# Altium schematic symbol library PiMX8MP_r0.3_release.SCHLIB: 77 symbols
Pins are listed as number, name and electrical type; pins without a type are passive.

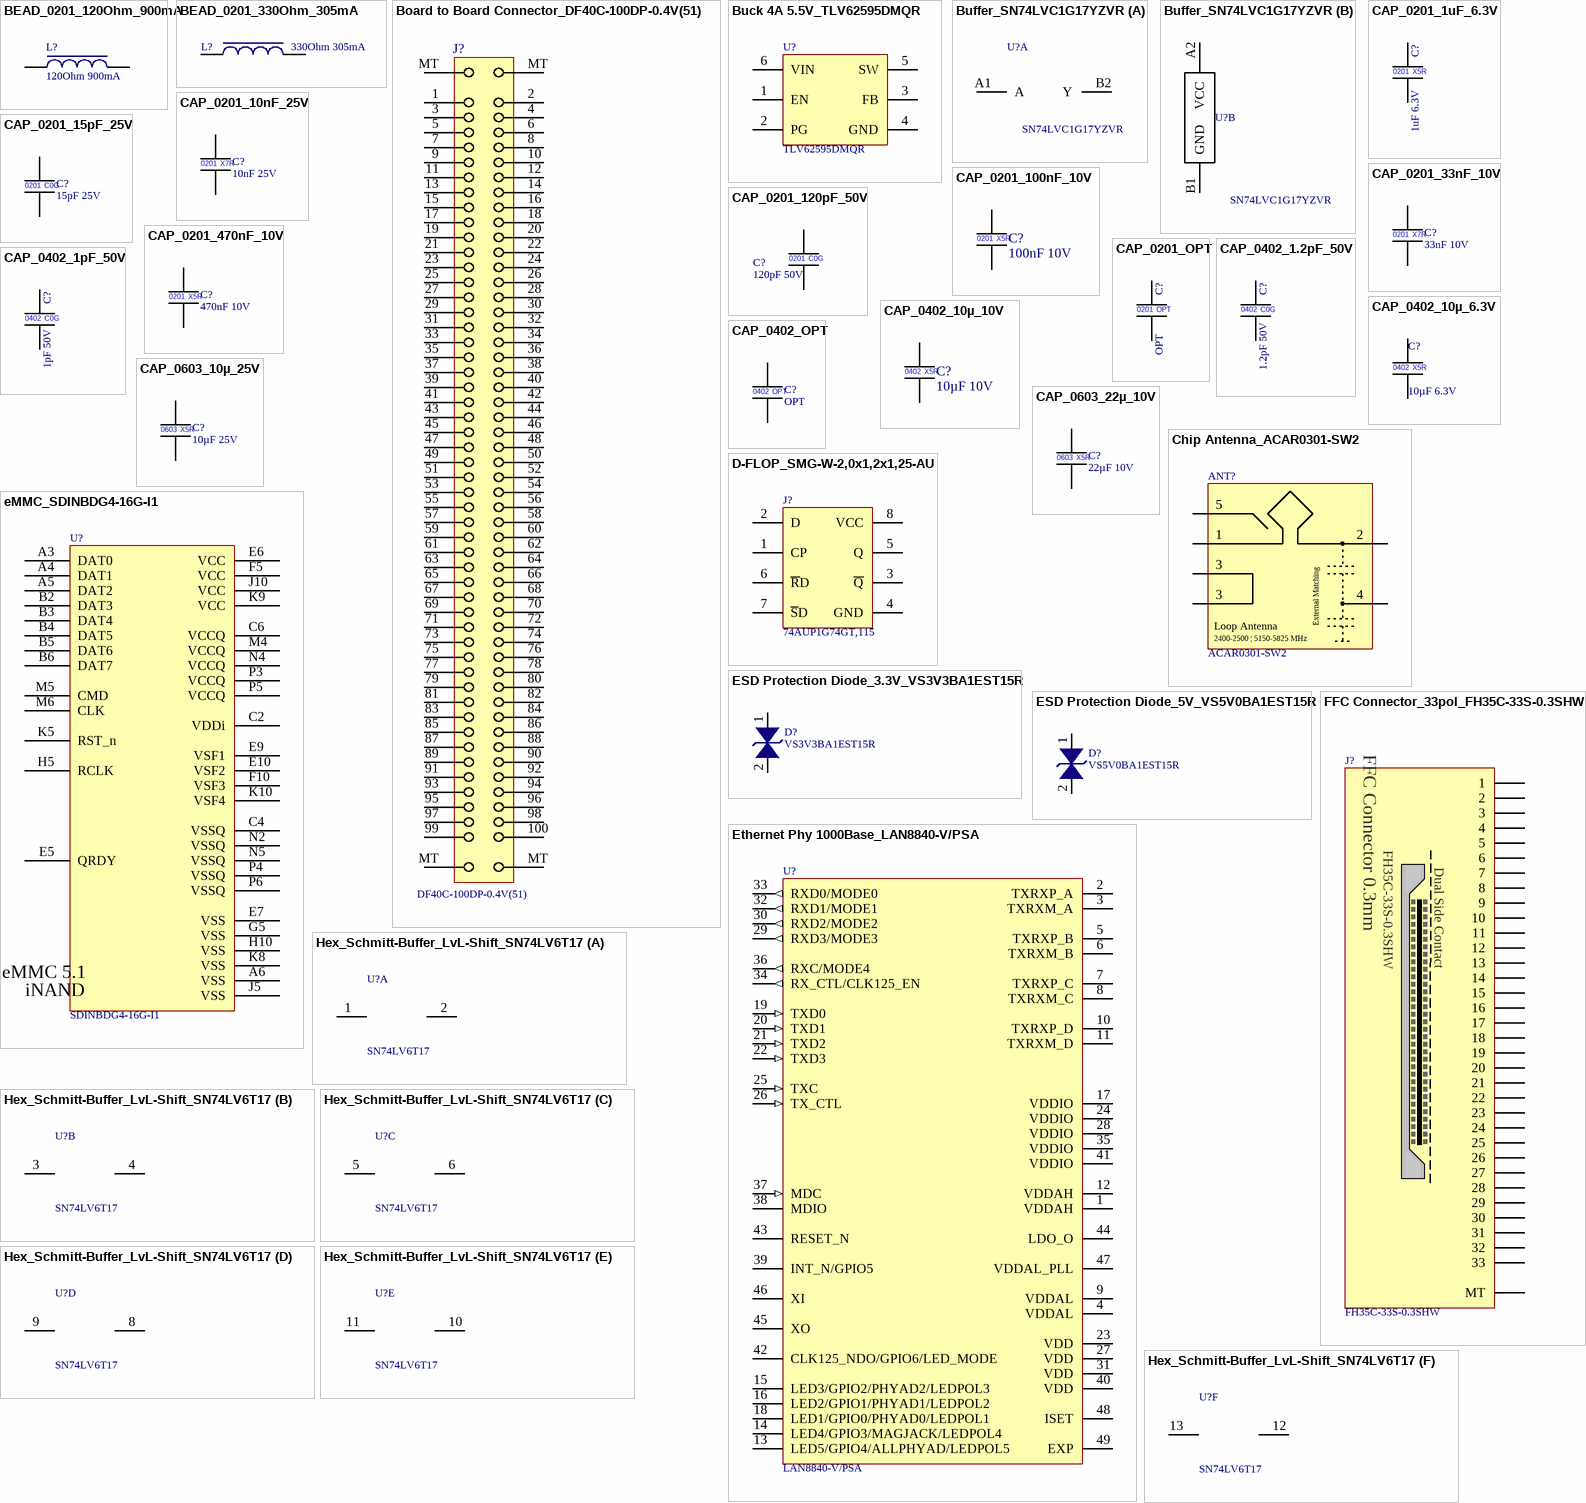
[diagram p0: symbols BEAD_0201_120Ohm_900mA to Hex_Schmitt-Buffer_LvL-Shift_SN74LV6T17]

## BEAD_0201_120Ohm_900mA
designator L?, comment 120Ohm 900mA
Ferrite Beads Multi-Layer 120Ohm 25% 100MHz 0.9A 0.16Ohm DCR 0201 T/R; Manufacturer 1 Prt. Nr.: BLM03PX121SN1D; Manufacturer 1: Murata Electronics; Manufacturer: Murata; Current Rating: 700mA; DC Resistance (DCR): 160mΩ; Impedance: 120Ω; Number of Circuits: 1; Value: 160mΩ; Supplier: Newark; Supplier Part Number: BLM03PX121SN1D; Manufacturer Part Number: BLM03PX121SN1D; RoHS: Compliant; Category: Ferrite Beads and Chips; Stock: 25450; Pricing: 10=0.023, 25=0.02, 50=0.019, 100=0.017, 250=0.015, 500=0.014, 1000=0.013 (USD); Case/Package: 0201; Core Material: Ferrite; Country of Origin: Japan; Export Control Classification Number (ECCN) Code: EAR99; Height: 300µm; Harmonized Tariff Schedule (HTS) Code: 8504.50.80.00; Introduction Date: 2017-05-24; Length: 600µm; Lifecycle Status: Production; Max Operating Temperature: 125°C; Min Operating Temperature: -55°C; Mounting Technology: Surface Mount; Number of Terminals: 2; REACH SVHC: Yes; RMS Current (Irms): 900mA; Schedule B: 8504500000, 8504500000|8504500000|8504500000|8504500000|8504500000; ESR: 160mΩ; Test Frequency: 100MHz; Tolerance: 25%; Width: 300µm; ComponentLink1URL: https://datasheet.octopart.com:443/BLM03PX121SN1D-Murata-datasheet-180806337.pdf?src-supplier=IHS; ComponentLink1Description: https://datasheet.octopart.com:443/BLM03PX121SN1D-Murata-datasheet-180806337.pdf?src-supplier=IHS; ComponentLink2URL: https://datasheet.octopart.com:443/BLM03PX121SN1D-Murata-datasheet-138706455.pdf?src-supplier=Ciiva; ComponentLink2Description: https://datasheet.octopart.com:443/BLM03PX121SN1D-Murata-datasheet-138706455.pdf?src-supplier=Ciiva; ComponentLink3URL: https://datasheet.octopart.com/BLM03PX121SN1D-Murata-datasheet-37129980.pdf; ComponentLink3Description: https://datasheet.octopart.com/BLM03PX121SN1D-Murata-datasheet-37129980.pdf; ComponentLink4URL: http://sigma.octopart.com:80/reach_statement/Murata-company-16.pdf?src-supplier=Compliance+Statements; ComponentLink4Description: http://sigma.octopart.com:80/reach_statement/Murata-company-16.pdf?src-supplier=Compliance+Statements
footprint INDC0603X03L (Chip Inductor, 2-Leads, Body 0,60x0,30mm, IPC High Density)
pins: 1, 2

## BEAD_0201_330Ohm_305mA
designator L?, comment 330Ohm 305mA
Ferrite Bead 0201 330Ohm 305mA; Manufacturer 1 Prt. Nr.: NFZ03SG331SN10D; Manufacturer 1: Murata Electronics
footprint INDC0603X03L (Chip Inductor, 2-Leads, Body 0,60x0,30mm, IPC High Density)
pins: 1, 2

## Board to Board Connector_DF40C-100DP-0.4V(51)
designator J?, comment DF40C-100DP-0.4V(51)
Board to Board connector 100Pol Stacking Header 0.4mm Pitch; Manufacturer 1: Hirose Connector; Manufacturer 1 Prt. Nr.: DF40C-100DP-0.4V(51)
footprint BOARD-TO-BOARD DF40C-100DP-0.4V (Stacking Board to Board Connector 100pol 0.4mm Pitch)
pins: 1, 2, 3, 4, 5, 6, 7, 8, 9, 10, 11, 12, 13, 14, 15, 16, 17, 18, 19, 20, 21, 22, 23, 24, 25, 26, 27, 28, 29, 30, 31, 32, 33, 34, 35, 36, 37, 38, 39, 40, 41, 42, 43, 44, 45, 46, 47, 48, 49, 50, 51, 52, 53, 54, 55, 56, 57, 58, 59, 60, 61, 62, 63, 64, 65, 66, 67, 68, 69, 70, 71, 72, 73, 74, 75, 76, 77, 78, 79, 80, 81, 82, 83, 84, 85, 86, 87, 88, 89, 90, 91, 92, 93, 94, 95, 96, 97, 98, 99, 100, MT, MT, MT, MT

## Buck 4A 5.5V_TLV62595DMQR
designator U?, comment TLV62595DMQR
5.5V, 4A, Adjustable ,Synchronous Buck Converter; Manufacturer 1: Texas Instruments; Manufacturer 1 Prt. Nr.: TLV62595DMQR
footprint VSON50P150X150X100_HS-6L (DMQ (VSON-HR, 6) Package 1.5mm X 1.5mm x 1mm)
pins: 1 EN, 2 PG, 3 FB, 4 GND, 5 SW, 6 VIN

## Buffer_SN74LVC1G17YZVR
designator U?, comment SN74LVC1G17YZVR
Single Buffer SN74LVC1G17DPWR; Manufacturer 1: Texas Instruments; Manufacturer 1 Prt. Nr.: SN74LVC1G17YZVR
footprint BGA4C50P2X2_89X89X50 (BGA, 4-Leads, Body 0,89x0,89mmx0,50mm, Pitch 0,50mm)
part A pins: A1 A, B2 Y
part B pins: A2 VCC, B1 GND

## CAP_0201_1uF_6.3V
designator C?, comment 1uF 6.3V
Multilayer Ceramic Capacitors MLCC - SMD/SMT 0201 6.3VDC; Manufacturer 1: Murata Electronics; Manufacturer 1 Prt. Nr.: GRM033R60J105MEA2D; Manufacturer 2 Prt. Nr.: CL03A105MQ3CSNC; Manufacturer 2: Samsung Electro-Mechanics
footprint CAPC0603X03L (Chip Capacitor, 2-Leads, Body 0,60x0,30mm, IPC High Density)
pins: 1, 2
text: 0201; X5R

## CAP_0201_10nF_25V
designator C?, comment 10nF 25V
Multilayer Ceramic Capacitors MLCC - SMD/SMT 0201 25VDC; Manufacturer 1: Murata Electronics; Manufacturer 1 Prt. Nr.: GRM033C81E103KE14D; Manufacturer 2 Prt. Nr.: 02013C103KAT2A; Manufacturer 2: AVX
footprint CAPC0603X03L (Chip Capacitor, 2-Leads, Body 0,60x0,30mm, IPC High Density)
pins: 1, 2
text: 0201; X7R

## CAP_0201_15pF_25V
designator C?, comment 15pF 25V
Multilayer Ceramic Capacitors MLCC - SMD/SMT 0201 25VDC; Manufacturer 1: Murata Electronics; Manufacturer 1 Prt. Nr.: GCM0335C1E150FA16J; Manufacturer 2 Prt. Nr.: C0201C150J3GACTU; Manufacturer 2: KEMET
footprint CAPC0603X03L (Chip Capacitor, 2-Leads, Body 0,60x0,30mm, IPC High Density)
pins: 1, 2
text: 0201; C0G

## CAP_0201_33nF_10V
designator C?, comment 33nF 10V
Multilayer Ceramic Capacitors MLCC - SMD/SMT 0201 10VDC; Manufacturer 1: Murata Electronics; Manufacturer 1 Prt. Nr.: GRM033R61A333KE84E; Manufacturer 2 Prt. Nr.: CC0201KRX5R6BB333; Manufacturer 2: YAGEO
footprint CAPC0603X03L (Chip Capacitor, 2-Leads, Body 0,60x0,30mm, IPC High Density)
pins: 1, 2
text: 0201; X7R

## CAP_0201_100nF_10V
designator C?, comment 100nF 10V
Multilayer Ceramic Capacitors MLCC - SMD/SMT 0201 10VDC; Manufacturer 1: Murata Electronics; Manufacturer 1 Prt. Nr.: GRT033R61A104KE01J; Manufacturer 2 Prt. Nr.: CL03A104MP3NNNC; Manufacturer 2: Samsung Electro-Mechanics
footprint CAPC0603X03L (Chip Capacitor, 2-Leads, Body 0,60x0,30mm, IPC High Density)
pins: 1, 2
text: 0201; X5R

## CAP_0201_120pF_50V
designator C?, comment 120pF 50V
Multilayer Ceramic Capacitors MLCC - SMD/SMT 0201 50VDC; Manufacturer 1: Murata Electronics; Manufacturer 1 Prt. Nr.: GRT0335C1H121FA02D; Manufacturer 2 Prt. Nr.: GRM0335C1H121FA01D; Manufacturer 2: Murata Electronics
footprint CAPC0603X03L (Chip Capacitor, 2-Leads, Body 0,60x0,30mm, IPC High Density)
pins: 1, 2
text: 0201; C0G

## CAP_0201_470nF_10V
designator C?, comment 470nF 10V
Multilayer Ceramic Capacitors MLCC - SMD/SMT 0201 10VDC; Manufacturer 1: Taiyo Yuden; Manufacturer 1 Prt. Nr.: LMK063BBJ474KPLF; Manufacturer 2 Prt. Nr.: C0603X5R1A474M030BC; Manufacturer 2: TDK
footprint CAPC0603X03L (Chip Capacitor, 2-Leads, Body 0,60x0,30mm, IPC High Density)
pins: 1, 2
text: 0201; X5R

## CAP_0201_OPT
designator C?, comment OPT  (no BOM)
Optional Capacitor 0201
footprint CAPC0603X03L (Chip Capacitor, 2-Leads, Body 0,60x0,30mm, IPC High Density)
pins: 1, 2
text: 0201

## CAP_0402_1.2pF_50V
designator C?, comment 1.2pF 50V
Multilayer Ceramic Capacitors MLCC - SMD/SMT 0402 50VDC; Manufacturer 1: Murata Electronics; Manufacturer 1 Prt. Nr.: GJM1555C1H1R2CB01D; Manufacturer 2 Prt. Nr.: CBR04C129A5GAC; Manufacturer 2: KEMET
footprint CAPC1005X06L (Chip Capacitor, 2-Leads, Body 1,00x0,50mm, IPC High Density)
pins: 1, 2
text: 0402; C0G

## CAP_0402_1pF_50V
designator C?, comment 1pF 50V
Multilayer Ceramic Capacitors MLCC - SMD/SMT 0402 50VDC; Manufacturer 1: Murata Electronics; Manufacturer 1 Prt. Nr.: GJM1555C1H1R0BB01J; Manufacturer 2 Prt. Nr.: CBR04C109A5GAC; Manufacturer 2: KEMET
footprint CAPC1005X06L (Chip Capacitor, 2-Leads, Body 1,00x0,50mm, IPC High Density)
pins: 1, 2
text: 0402; C0G

## CAP_0402_10µ_6.3V
designator C?, comment 10µF 6.3V
Multilayer Ceramic Capacitors MLCC - SMD/SMT 0402 6.3VDC; Manufacturer 1: KYOCERA AVX; Manufacturer 1 Prt. Nr.: KGM05CS60J106MH; Manufacturer 2 Prt. Nr.: GRT155C80J106ME13J; Manufacturer 2: Murata
footprint CAPC1005X06L (Chip Capacitor, 2-Leads, Body 1,00x0,50mm, IPC High Density)
footprint CAPC1005X06UHDI (Chip Capacitor, 2-Leads, Body 1,00x0,50mm, IPC High Density)
pins: 1, 2
text: 0402; X5R

## CAP_0402_10µ_10V
designator C?, comment 10µF 10V
Multilayer Ceramic Capacitors MLCC - SMD/SMT 0402 10VDC; Manufacturer 1: Murata Electronics; Manufacturer 1 Prt. Nr.: GRM155R61A106ME11D; Manufacturer 2 Prt. Nr.: 0402ZD106MAT4A; Manufacturer 2: KYOCERA AVX
footprint CAPC1005X06L (Chip Capacitor, 2-Leads, Body 1,00x0,50mm, IPC High Density)
footprint CAPC1005X06UHDI (Chip Capacitor, 2-Leads, Body 1,00x0,50mm, IPC High Density)
pins: 1, 2
text: 0402; X5R

## CAP_0402_OPT
designator C?, comment OPT  (no BOM)
Optional Capacitor 0402
footprint CAPC1005X06L (Chip Capacitor, 2-Leads, Body 1,00x0,50mm, IPC High Density)
pins: 1, 2
text: 0402

## CAP_0603_10µ_25V
designator C?, comment 10µF 25V
Multilayer Ceramic Capacitors MLCC - SMD/SMT 0603 25VDC; Manufacturer 1: Murata Electronics; Manufacturer 1 Prt. Nr.: GRM188R61E106KA73J; Manufacturer 2 Prt. Nr.: CL10A106MA8NRNC; Manufacturer 2: Samsung Electro-Mechanics
footprint CAPC1608X10L (Chip Capacitor, 2-Leads, Body 1,60x0,80mm, IPC High Density)
pins: 1, 2
text: 0603; X5R

## CAP_0603_22µ_10V
designator C?, comment 22µF 10V
Multilayer Ceramic Capacitors MLCC - SMD/SMT 0603 10VDC; Manufacturer 1: Murata Electronics; Manufacturer 1 Prt. Nr.: GRM188R61A226ME15D; Manufacturer 2 Prt. Nr.: CL10A226MP8NRNC; Manufacturer 2: Samsung Electro-Mechanics
footprint CAPC1608X10L (Chip Capacitor, 2-Leads, Body 1,60x0,80mm, IPC High Density)
pins: 1, 2
text: 0603; X5R

## Chip Antenna_ACAR0301-SW2
designator ANT?, comment ACAR0301-SW2
Ceramic Chip Antenna ACAR0301-SW2 2.4 - 5.825GHZ; Manufacturer 1: ABRACON; Manufacturer 1 Prt. Nr.: ACAR0301-SW2
footprint ANTENNA_ACAR0301-SW2
pins: 1, 2, 3, 3, 4, 5
text: External Matching; Loop Antenna; 2400-2500 | 5150-5825 MHz

## D-FLOP_SMG-W-2,0x1,2x1,25-AU
designator J?, comment 74AUP1G74GT,115
D-type flip-flop with differential output and async set- and reset input; Manufacturer 1: Nexperia; Manufacturer 1 Prt. Nr.: 74AUP1G74GT,115
footprint PSON50P100X50-8L (PSON, 8-Leads, Body 1,95x1,00mm, Pitch 0,50mm, IPC High Density)
pins: 1 CP, 2 D, 3 ~{Q}, 4 GND, 5 Q, 6 ~{R}D, 7 ~{S}D, 8 VCC

## eMMC_SDINBDG4-16G-I1
designator U?, comment SDINBDG4-16G-I1
iNAND eMMC 16GB; Manufacturer 1: SanDisk; Manufacturer 1 Prt. Nr.: SDINBDG4-16G-I1
footprint BGA153C50P14X14_1150X1300X80 (BGA, 153-Leads, Body 11,50x13,00mmx0,80mm, Pitch 0,50mm)
footprint BGA153C50P14X14_1150X1300X120 (BGA, 153-Leads, Body 11,50x13,00mmx0,80mm, Pitch 0,50mm)
pins: A3 DAT0, A4 DAT1, A5 DAT2, A6 VSS, B2 DAT3, B3 DAT4, B4 DAT5, B5 DAT6, B6 DAT7, C2 VDDi, C4 VSSQ, C6 VCCQ, E5 QRDY, E6 VCC, E7 VSS, E9 VSF1, E10 VSF2, F5 VCC, F10 VSF3, G5 VSS, H5 RCLK, H10 VSS, J5 VSS, J10 VCC, K5 RST_n, K8 VSS, K9 VCC, K10 VSF4, M4 VCCQ, M5 CMD, M6 CLK, N2 VSSQ, N4 VCCQ, N5 VSSQ, P3 VCCQ, P4 VSSQ, P5 VCCQ, P6 VSSQ
text: eMMC 5.1; iNAND

## ESD Protection Diode_3.3V_VS3V3BA1EST15R
designator D?, comment VS3V3BA1EST15R
ESD Diode Suppressors Bidirectional 3.3V working voltage 0201; Manufacturer 1: ROHM Semiconductor; Manufacturer 1 Prt. Nr.: VS3V3BA1EST15R
footprint DFN38P60X29-2L (DFN, 2-Leads, Body 0,30x0,60mm, Pitch 0,38mm, IPC High Density)
pins: 1, 2

## ESD Protection Diode_5V_VS5V0BA1EST15R
designator D?, comment VS5V0BA1EST15R
ESD Diode Suppressors Bidirectional 5V working voltage 0201; Manufacturer 1: ROHM Semiconductor; Manufacturer 1 Prt. Nr.: VS5V0BA1EST15R
footprint DFN38P60X29-2L (DFN, 2-Leads, Body 0,30x0,60mm, Pitch 0,38mm, IPC High Density)
pins: 1, 2

## Ethernet Phy 1000Base_LAN8840-V/PSA
designator U?, comment LAN8840-V/PSA
Precision IEEE1588v2 Integrated 10/100/1000M Ethernet precision Transdceiver; Manufacturer 1: Microchip Technology; Manufacturer 1 Prt. Nr.: LAN8840-V/PSA; Temperature Range: -40°C-105°C
footprint QFN50P700X700X100_HS-49L (QFN, 48-Leads, Body 7,00x7,00mm, Pitch 0,50mm, Thermal Pad 5,05x5,05mm, IPC High Density)
pins: 1 VDDAH, 2 TXRXP_A, 3 TXRXM_A, 4 VDDAL, 5 TXRXP_B, 6 TXRXM_B, 7 TXRXP_C, 8 TXRXM_C, 9 VDDAL, 10 TXRXP_D, 11 TXRXM_D, 12 VDDAH, 13 LED5/GPIO4/ALLPHYAD/LEDPOL5, 14 LED4/GPIO3/MAGJACK/LEDPOL4, 15 LED3/GPIO2/PHYAD2/LEDPOL3, 16 LED2/GPIO1/PHYAD1/LEDPOL2, 17 VDDIO, 18 LED1/GPIO0/PHYAD0/LEDPOL1, 19 TXD0 (in), 20 TXD1 (in), 21 TXD2 (in), 22 TXD3 (in), 23 VDD, 24 VDDIO, 25 TXC (in), 26 TX_CTL (in), 27 VDD, 28 VDDIO, 29 RXD3/MODE3 (out), 30 RXD2/MODE2 (out), 31 VDD, 32 RXD1/MODE1 (out), 33 RXD0/MODE0 (out), 34 RX_CTL/CLK125_EN (out), 35 VDDIO, 36 RXC/MODE4 (out), 37 MDC (in), 38 MDIO, 39 INT_N/GPIO5, 40 VDD, 41 VDDIO, 42 CLK125_NDO/GPIO6/LED_MODE, 43 RESET_N, 44 LDO_O, 45 XO, 46 XI, 47 VDDAL_PLL, 48 ISET, 49 EXP

## FFC Connector_33pol_FH35C-33S-0.3SHW
designator J?, comment FH35C-33S-0.3SHW
FFC Connector 33pol 0.3mm Pitch Double Sided Contacts; Manufacturer 1: Hirose Connector; Manufacturer 1 Prt. Nr.: FH35C-33S-0.3SHW(99)
footprint FFC 33pol 0.3mm FH35C-33S-0.3SHW
pins: 1, 2, 3, 4, 5, 6, 7, 8, 9, 10, 11, 12, 13, 14, 15, 16, 17, 18, 19, 20, 21, 22, 23, 24, 25, 26, 27, 28, 29, 30, 31, 32, 33, MT
text: FFC Connector 0.3mm; Dual Side Contact

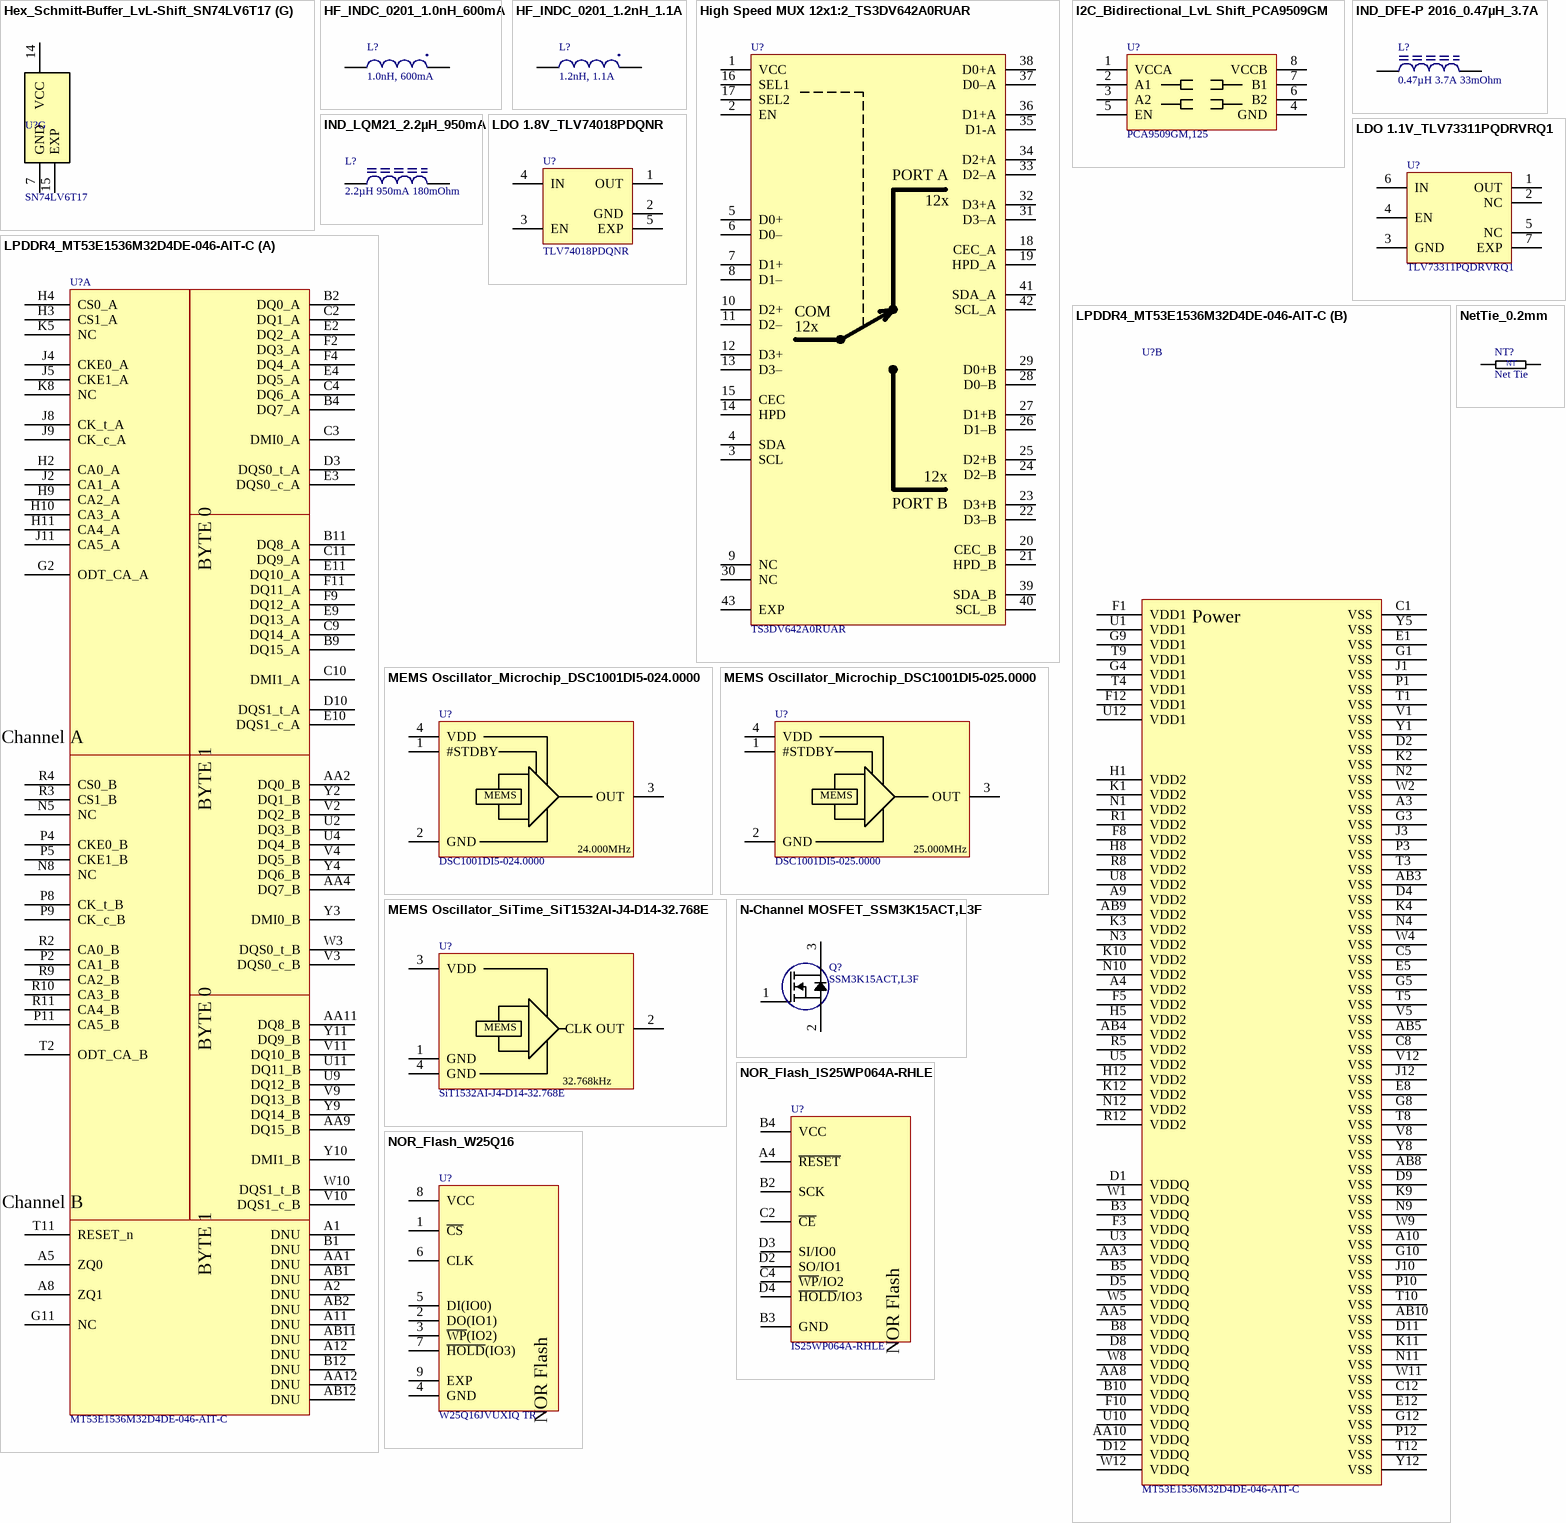
[diagram p1: symbols Hex_Schmitt-Buffer_LvL-Shift_SN74LV6T17 to NOR_Flash_W25Q16]

## Hex_Schmitt-Buffer_LvL-Shift_SN74LV6T17
designator U?, comment SN74LV6T17
Hex Schmitt-Trigger Buffer with Integrated Translation; Manufacturer 1: NXP Semiconductors; Manufacturer 1 Prt. Nr.: SN74LV6T17BQAR
footprint QFN50P250X300X80_HS-13L (QFN, 12-Leads, Body 2,50x3,00mm, Pitch 0,50mm, Thermal Pad 1,00x1,50mm, IPC High Density)
part A pins: 1 1A, 2 1Y
part B pins: 3 2A, 4 2Y
part C pins: 5 3A, 6 3Y
part D pins: 8 4Y, 9 4A
part E pins: 10 5Y, 11 5A
part F pins: 12 6Y, 13 6A
part G pins: 7 GND, 14 VCC, 15 EXP

## HF_INDC_0201_1.0nH_600mA
designator L?, comment 1.0nH, 600mA
0201 HF Inductor; Manufacturer 1 Prt. Nr.: AIMC-06UHQ-1N0B-T; Manufacturer 1: Abracon; Manufacturer 2 Prt. Nr.: MLG0603S1N0BTD25; Manufacturer 2: TDK
footprint INDC0603X03L (Chip Inductor, 2-Leads, Body 0,60x0,30mm, IPC High Density)
pins: 1, 2

## HF_INDC_0201_1.2nH_1.1A
designator L?, comment 1.2nH, 1.1A
0201 HF Inductor; Manufacturer 1 Prt. Nr.: AIMC-06UHQ-1N2B-T; Manufacturer 1: Abracon; Manufacturer 2 Prt. Nr.: LQP03HQ1N2C02D; Manufacturer 2: Murata
footprint INDC0603X03L (Chip Inductor, 2-Leads, Body 0,60x0,30mm, IPC High Density)
pins: 1, 2

## High Speed MUX 12x1:2_TS3DV642A0RUAR
designator U?, comment TS3DV642A0RUAR
High-speed differential switch 12x2:1 for TMDS and generel LVDS signal switching; Manufacturer 1: Texas Instruments; Manufacturer 1 Prt. Nr.: TS3DV642A0RUAR
footprint QFN50P350X900X80_HS-43L (QFN, 42-Leads, Body 3,50x9,00mm, Pitch 0,50mm, Thermal Pad 2,05x7,55mm, IPC High Density)
pins: 1 VCC, 2 EN, 3 SCL, 4 SDA, 5 D0+, 6 D0–, 7 D1+, 8 D1–, 9 NC, 10 D2+, 11 D2–, 12 D3+, 13 D3–, 14 HPD, 15 CEC, 16 SEL1, 17 SEL2, 18 CEC_A, 19 HPD_A, 20 CEC_B, 21 HPD_B, 22 D3–B, 23 D3+B, 24 D2–B, 25 D2+B, 26 D1–B, 27 D1+B, 28 D0–B, 29 D0+B, 30 NC, 31 D3–A, 32 D3+A, 33 D2–A, 34 D2+A, 35 D1-A, 36 D1+A, 37 D0–A, 38 D0+A, 39 SDA_B, 40 SCL_B, 41 SDA_A, 42 SCL_A, 43 EXP
text: PORT A; 12x; COM; PORT B

## I2C_Bidirectional_LvL Shift_PCA9509GM
designator U?, comment PCA9509GM,125
Level SHifter Dual Channel Bidirectional for I2C up to 400kHz; Manufacturer 1: NXP Semiconductors; Manufacturer 1 Prt. Nr.: PCA9509GM,125
footprint XQFN8_160X106X50 (XQFN Not leads 8-pin 1.6mm x 1.6mm x 0.5mm)
pins: 1 VCCA, 2 A1, 3 A2, 4 GND, 5 EN, 6 B2, 7 B1, 8 VCCB

## IND_DFE-P 2016_0.47µH_3.7A
designator L?, comment 0.47µH 3.7A 33mOhm
Fixed Inductors DFE-P 2016 0.47uH 3.7A 20% 33mOhms HiCur; Manufacturer 1 Prt. Nr.: DFE201612P-R47M=P2; Manufacturer 1: Murata Electronics
footprint INDC2016X12L (Chip Inductor, 2-Leads, Body 2,00x1,60mm, IPC High Density)
pins: 1, 2

## IND_LQM21_2.2µH_950mA
designator L?, comment 2.2µH 950mA 180mOhm
Fixed Inductors LQM21 2.2uH 950mA 20% 180mOhms; Manufacturer 1 Prt. Nr.: LQM21PN2R2MGSD; Manufacturer 1: Murata Electronics
footprint INDC2012X10L (Chip Inductor, 2-Leads, Body 2,00x1,25mm, IPC High Density)
pins: 1, 2

## LDO 1.1V_TLV73311PQDRVRQ1
designator U?, comment TLV73311PQDRVRQ1
LDO voltage regulator 300mA WSON-6; Manufacturer 1: Texas Instruments; Manufacturer 1 Prt. Nr.: TLV73311PQDRVRQ1; Temperature Range: -40°C-150°C
footprint SON65P200X80_HS-7L (SON, 6-Leads, Body 2,00x2,00mm, Pitch 0,65mm, Thermal Pad 1,60x0,89mm, IPC High Density)
pins: 1 OUT, 2 NC, 3 GND, 4 EN, 5 NC, 6 IN, 7 EXP

## LDO 1.8V_TLV74018PDQNR
designator U?, comment TLV74018PDQNR
LDO voltage regulator 300mA X2SON; Manufacturer 1: Texas Instruments; Manufacturer 1 Prt. Nr.: TLV74018PDQNR
footprint X2SON-DFN (X2SON small outline to lead)
pins: 1 OUT, 2 GND, 3 EN, 4 IN, 5 EXP

## LPDDR4_MT53E1536M32D4DE-046-AIT-C
designator U?, comment MT53E1536M32D4DE-046-AIT-C
DRAM LPDDR4 48G 1.5GX32 FBGA QDP; Manufacturer 1: Micron; Manufacturer 1 Prt. Nr.: MT53E1536M32D4DE-046-AIT-C
footprint BGA200C65P12X22_1000X1450X114 (BGA, 200-Leads, Body 10,00x14,50mmx1,14mm, Pitch 0,65mm)
part A pins: A1 DNU, A2 DNU, A5 ZQ0, A8 ZQ1, A11 DNU, A12 DNU, AA1 DNU, AA2 DQ0_B, AA4 DQ7_B, AA9 DQ15_B, AA11 DQ8_B, AA12 DNU, AB1 DNU, AB2 DNU, AB11 DNU, AB12 DNU, B1 DNU, B2 DQ0_A, B4 DQ7_A, B9 DQ15_A, B11 DQ8_A, B12 DNU, C2 DQ1_A, C3 DMI0_A, C4 DQ6_A, C9 DQ14_A, C10 DMI1_A, C11 DQ9_A, D3 DQS0_t_A, D10 DQS1_t_A, E2 DQ2_A, E3 DQS0_c_A, E4 DQ5_A, E9 DQ13_A, E10 DQS1_c_A, E11 DQ10_A, F2 DQ3_A, F4 DQ4_A, F9 DQ12_A, F11 DQ11_A, G2 ODT_CA_A, G11 NC, H2 CA0_A, H3 CS1_A, H4 CS0_A, H9 CA2_A, H10 CA3_A, H11 CA4_A, J2 CA1_A, J4 CKE0_A, J5 CKE1_A, J8 CK_t_A, J9 CK_c_A, J11 CA5_A, K5 NC, K8 NC, N5 NC, N8 NC, P2 CA1_B, P4 CKE0_B, P5 CKE1_B, P8 CK_t_B, P9 CK_c_B, P11 CA5_B, R2 CA0_B, R3 CS1_B, R4 CS0_B, R9 CA2_B, R10 CA3_B, R11 CA4_B, T2 ODT_CA_B, T11 RESET_n, U2 DQ3_B, U4 DQ4_B, U9 DQ12_B, U11 DQ11_B, V2 DQ2_B, V3 DQS0_c_B, V4 DQ5_B, V9 DQ13_B, V10 DQS1_c_B, V11 DQ10_B, W3 DQS0_t_B, W10 DQS1_t_B, Y2 DQ1_B, Y3 DMI0_B, Y4 DQ6_B, Y9 DQ14_B, Y10 DMI1_B, Y11 DQ9_B
part B pins: A3 VSS, A4 VDD2, A9 VDD2, A10 VSS, AA3 VDDQ, AA5 VDDQ, AA8 VDDQ, AA10 VDDQ, AB3 VSS, AB4 VDD2, AB5 VSS, AB8 VSS, AB9 VDD2, AB10 VSS, B3 VDDQ, B5 VDDQ, B8 VDDQ, B10 VDDQ, C1 VSS, C5 VSS, C8 VSS, C12 VSS, D1 VDDQ, D2 VSS, D4 VSS, D5 VDDQ, D8 VDDQ, D9 VSS, D11 VSS, D12 VDDQ, E1 VSS, E5 VSS, E8 VSS, E12 VSS, F1 VDD1, F3 VDDQ, F5 VDD2, F8 VDD2, F10 VDDQ, F12 VDD1, G1 VSS, G3 VSS, G4 VDD1, G5 VSS, G8 VSS, G9 VDD1, G10 VSS, G12 VSS, H1 VDD2, H5 VDD2, H8 VDD2, H12 VDD2, J1 VSS, J3 VSS, J10 VSS, J12 VSS, K1 VDD2, K2 VSS, K3 VDD2, K4 VSS, K9 VSS, K10 VDD2, K11 VSS, K12 VDD2, N1 VDD2, N2 VSS, N3 VDD2, N4 VSS, N9 VSS, N10 VDD2, N11 VSS, N12 VDD2, P1 VSS, P3 VSS, P10 VSS, P12 VSS, R1 VDD2, R5 VDD2, R8 VDD2, R12 VDD2, T1 VSS, T3 VSS, T4 VDD1, T5 VSS, T8 VSS, T9 VDD1, T10 VSS, T12 VSS, U1 VDD1, U3 VDDQ, U5 VDD2, U8 VDD2, U10 VDDQ, U12 VDD1, V1 VSS, V5 VSS, V8 VSS, V12 VSS, W1 VDDQ, W2 VSS, W4 VSS, W5 VDDQ, W8 VDDQ, W9 VSS, W11 VSS, W12 VDDQ, Y1 VSS, Y5 VSS, Y8 VSS, Y12 VSS
part A text: BYTE 0; Channel A; BYTE 1; Channel B
part B text: Power

## MEMS Oscillator_Microchip_DSC1001DI5-024.0000
designator U?, comment DSC1001DI5-024.0000
1.8V-3.3V Low-Power Precision CMOS Oscillators / Stability: ±10 ppm / Output load: 10pF; Manufacturer 1: Microchip Technology; Manufacturer 1 Prt. Nr.: DSC1001DI5-024.0000
footprint DFN165P250X90-4N (DFN, 4-Leads, Body 2,00x2,50mm, Pitch 1,65mm, IPC Medium Density)
pins: 1 #STDBY, 2 GND, 3 OUT, 4 VDD
text: MEMS; 24.000MHz

## MEMS Oscillator_Microchip_DSC1001DI5-025.0000
designator U?, comment DSC1001DI5-025.0000
1.8V-3.3V Low-Power Precision CMOS Oscillators / Stability: ±10 ppm / Output load: 10pF; Manufacturer 1: Microchip Technology; Manufacturer 1 Prt. Nr.: DSC1001DI5-025.0000
footprint DFN165P250X90-4N (DFN, 4-Leads, Body 2,00x2,50mm, Pitch 1,65mm, IPC Medium Density)
pins: 1 #STDBY, 2 GND, 3 OUT, 4 VDD
text: MEMS; 25.000MHz

## MEMS Oscillator_SiTime_SiT1532AI-J4-D14-32.768E
designator U?, comment SiT1532AI-J4-D14-32.768E
10 ppm Ultra-Low Power 32.768 kHz XTAL Replacement; Manufacturer 1: SiTime; Manufacturer 1 Prt. Nr.: SiT1532AI-J4-D14-32.768E
footprint OSCILLATOR_SITIME_SiT1532AI-J4-D14-32.768E (10 ppm Ultra-Low Power 32.768 kHz XTAL Replacement)
pins: 1 GND, 2 CLK OUT, 3 VDD, 4 GND
text: MEMS; 32.768kHz

## N-Channel MOSFET_SSM3K15ACT,L3F
designator Q?, comment SSM3K15ACT,L3F
MOSFET 30V SGL N-CH TRENCHMOS Logic Level; Manufacturer 1: Toshiba; Manufacturer 1 Prt. Nr.: SSM3K15ACT,L3F
footprint DFN65P100X50-3L (DFN, 3-Leads, Body 0,60x1,00mm, Pitch 0,65mm, IPC High Density)
pins: 1 G, 2 S, 3 D

## NetTie_0.2mm
designator NT?, comment Net Tie  (net tie, no BOM)
Net Tie Element
footprint Net_Tie_0.2mm
pins: 1, 2
text: NT

## NOR_Flash_IS25WP064A-RHLE
designator U?, comment IS25WP064A-RHLE
NOR Flash 64Mbit; Manufacturer 1: ISSI; Manufacturer 1 Prt. Nr.: IS25WP064A-RHLE
footprint BGA24C100P5X5_600X800X120 (BGA, 24-Leads, Body 6,00x8,00mmx1,20mm, Pitch 1,00mm)
pins: A4 ~{RESET}, B2 SCK, B3 GND, B4 VCC, C2 ~{CE}, C4 ~{WP}/IO2, D2 SO/IO1, D3 SI/IO0, D4 ~{HOLD}/IO3
text: NOR Flash

## NOR_Flash_W25Q16
designator U?, comment W25Q16JVUXIQ TR
NOR Flash spiFlash, 3V, 16M-bit, 4Kb Uniform Sector, DTR; Manufacturer 1: Winbond; Manufacturer 1 Prt. Nr.: W25Q16JVUXIQ TR; Temperature Range: -40°C - 85°C
footprint QFN50P300X200X60_HS-9L (QFN, 8-Leads, Body 3,00x2,00mm, Pitch 0,50mm, Thermal Pad 0,20x1,60mm, IPC High Density)
pins: 1 ~{CS}, 2 DO(IO1), 3 ~{WP}(IO2), 4 GND, 5 DI(IO0), 6 CLK, 7 ~{HOLD}(IO3), 8 VCC, 9 EXP
text: NOR Flash

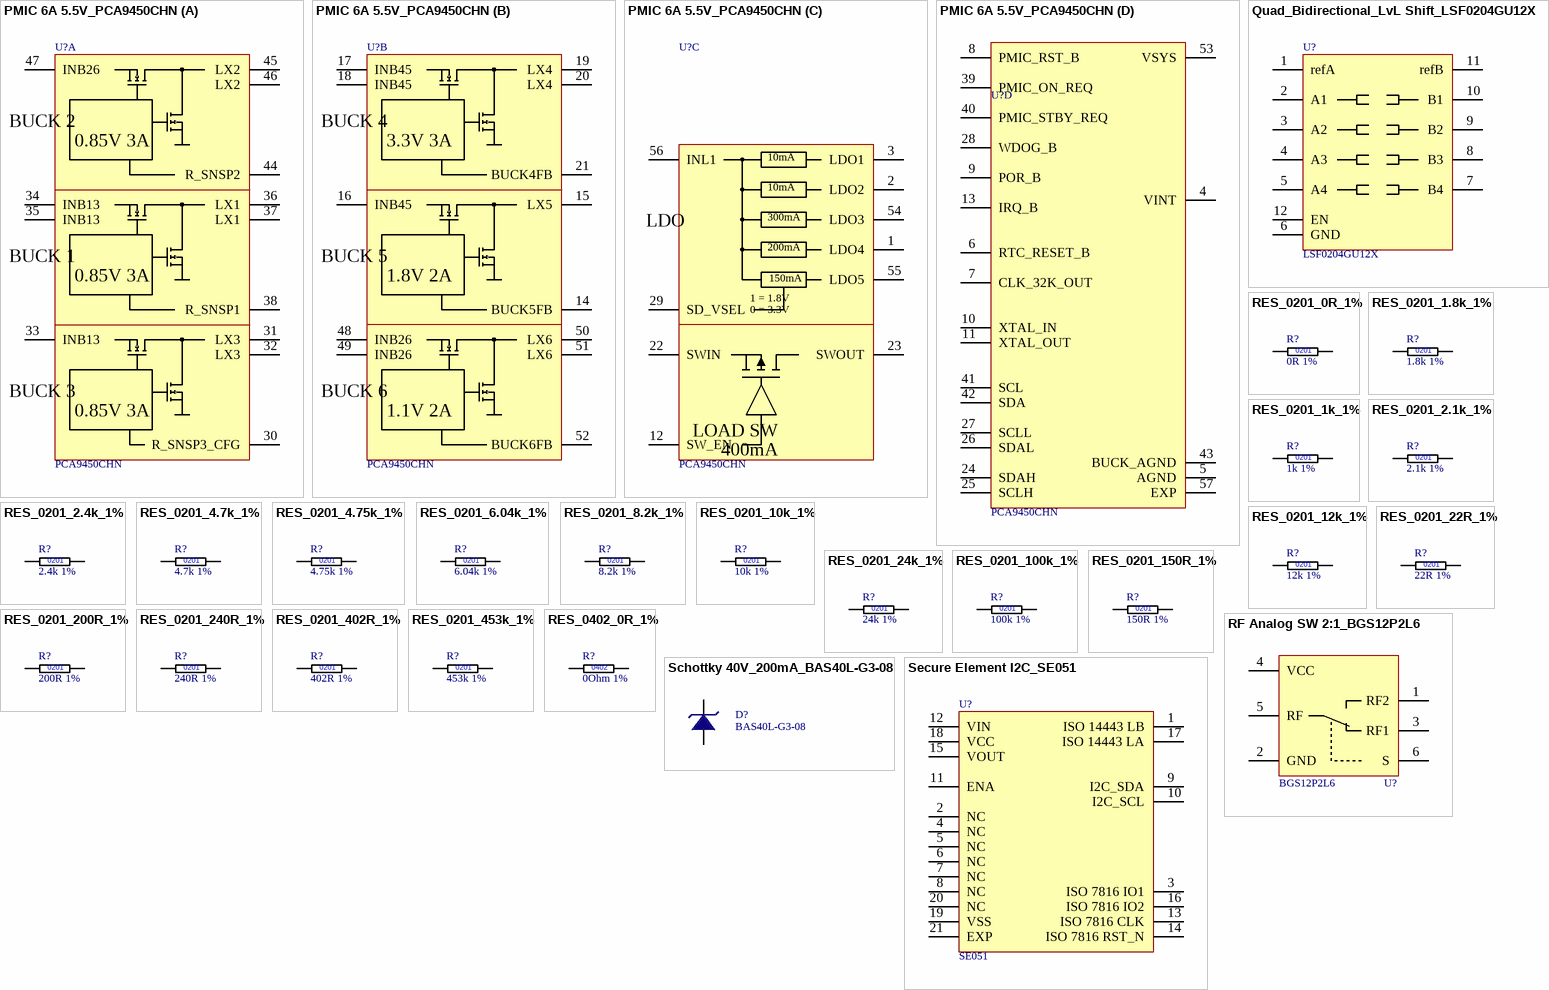
[diagram p2: symbols PMIC 6A 5.5V_PCA9450CHN to Secure Element I2C_SE051]

## PMIC 6A 5.5V_PCA9450CHN
designator U?, comment PCA9450CHN
5.5V, 6A, Low I Q ,Synchronous Buck Converter PMIC; Manufacturer 1: NXP Semiconductors; Manufacturer 1 Prt. Nr.: PCA9450CHN
footprint QFN40P700X700X100_HS-57L (QFN, 56-Leads, Body 7,00x7,00mm, Pitch 0,40mm, Thermal Pad 4,70x4,70mm, IPC High Density)
part A pins: 30 R_SNSP3_CFG, 31 LX3, 32 LX3, 33 INB13, 34 INB13, 35 INB13, 36 LX1, 37 LX1, 38 R_SNSP1, 44 R_SNSP2, 45 LX2, 46 LX2, 47 INB26
part B pins: 14 BUCK5FB, 15 LX5, 16 INB45, 17 INB45, 18 INB45, 19 LX4, 20 LX4, 21 BUCK4FB, 48 INB26, 49 INB26, 50 LX6, 51 LX6, 52 BUCK6FB
part C pins: 1 LDO4, 2 LDO2, 3 LDO1, 12 SW_EN, 22 SWIN, 23 SWOUT, 29 SD_VSEL, 54 LDO3, 55 LDO5, 56 INL1
part D pins: 4 VINT, 5 AGND, 6 RTC_RESET_B, 7 CLK_32K_OUT, 8 PMIC_RST_B, 9 POR_B, 10 XTAL_IN, 11 XTAL_OUT, 13 IRQ_B, 24 SDAH, 25 SCLH, 26 SDAL, 27 SCLL, 28 WDOG_B, 39 PMIC_ON_REQ, 40 PMIC_STBY_REQ, 41 SCL, 42 SDA, 43 BUCK_AGND, 53 VSYS, 57 EXP
part A text: BUCK 2; 0.85V 3A; BUCK 1; BUCK 3
part B text: BUCK 4; 3.3V 3A; BUCK 5; 1.8V 2A; BUCK 6; 1.1V 2A
part C text: 10mA; LDO; 300mA; 200mA; 150mA; 1 = 1.8V; 0 = 3.3V; LOAD SW; 400mA

## Quad_Bidirectional_LvL Shift_LSF0204GU12X
designator U?, comment LSF0204GU12X
4-bit bidirectional multi-voltage level translator; Manufacturer 1: Nexperia; Manufacturer 1 Prt. Nr.: LSF0204GU12X; Temperature Range: -40°C - 125°C
footprint QFN40P170X200X50-12L (QFN, 12-Leads, Body 1,70x2,00mm, Pitch 0,40mm, IPC High Density)
pins: 1 refA, 2 A1, 3 A2, 4 A3, 5 A4, 6 GND, 7 B4, 8 B3, 9 B2, 10 B1, 11 refB, 12 EN

## RES_0201_0R_1%
designator R?, comment 0R 1%
Thick Film Resistors - SMD 0R OHM 1%; Manufacturer 1: Yageo; Manufacturer 1 Prt. Nr.: RC0201FR-070RL; Manufacturer 2 Prt. Nr.: CRCW02010000Z0ED; Manufacturer 2: Vishay / Dale
footprint RESC0603X03L (Chip Resistor, 2-Leads, Body 0,60x0,30mm, IPC High Density)
pins: 1, 2
text: 0201

## RES_0201_1.8k_1%
designator R?, comment 1.8k 1%
Thick Film Resistors - SMD 1.8K OHM 1%; Manufacturer 1: Panasonic; Manufacturer 1 Prt. Nr.: ERJ-1GNF1801C; Manufacturer 2 Prt. Nr.: CRCW02011K80FKED; Manufacturer 2: Vishay / Dale
footprint RESC0603X03L (Chip Resistor, 2-Leads, Body 0,60x0,30mm, IPC High Density)
pins: 1, 2
text: 0201

## RES_0201_1k_1%
designator R?, comment 1k 1%
Thick Film Resistors - SMD 1K OHM 1%; Manufacturer 1: Yageo; Manufacturer 1 Prt. Nr.: RC0201FR-071KL; Manufacturer 2 Prt. Nr.: CRCW02011K00FNED; Manufacturer 2: Vishay / Dale
footprint RESC0603X03L (Chip Resistor, 2-Leads, Body 0,60x0,30mm, IPC High Density)
pins: 1, 2
text: 0201

## RES_0201_2.1k_1%
designator R?, comment 2.1k 1%
Thick Film Resistors - SMD 2.1K OHM 1%; Manufacturer 1: Panasonic; Manufacturer 1 Prt. Nr.: ERJ-1GNF2101C; Manufacturer 2 Prt. Nr.: RC0201FR-072K1L; Manufacturer 2: Yageo
footprint RESC0603X03L (Chip Resistor, 2-Leads, Body 0,60x0,30mm, IPC High Density)
pins: 1, 2
text: 0201

## RES_0201_2.4k_1%
designator R?, comment 2.4k 1%  (no BOM)
Thick Film Resistors - SMD 2.4K OHM 1%; Manufacturer 1: Bourns; Manufacturer 1 Prt. Nr.: CR0201AFW-2401GAS; Manufacturer 2 Prt. Nr.: RC0201FR-072K4L; Manufacturer 2: Yageo
footprint RESC0603X03L (Chip Resistor, 2-Leads, Body 0,60x0,30mm, IPC High Density)
pins: 1, 2
text: 0201

## RES_0201_4.7k_1%
designator R?, comment 4.7k 1%
Thick Film Resistors - SMD 4.7K OHM 1%; Manufacturer 1: Yageo; Manufacturer 1 Prt. Nr.: RC0201JR-074K7P; Manufacturer 2 Prt. Nr.: CRCW02014K70FNED; Manufacturer 2: Vishay / Dale
footprint RESC0603X03L (Chip Resistor, 2-Leads, Body 0,60x0,30mm, IPC High Density)
pins: 1, 2
text: 0201

## RES_0201_4.75k_1%
designator R?, comment 4.75k 1%
Thick Film Resistors - SMD 4.75K OHM 1%; Manufacturer 1: Yageo; Manufacturer 1 Prt. Nr.: AC0201FR-074K75L; Manufacturer 2 Prt. Nr.: CRCW02014K75FNED; Manufacturer 2: Vishay / Dale
footprint RESC0603X03L (Chip Resistor, 2-Leads, Body 0,60x0,30mm, IPC High Density)
pins: 1, 2
text: 0201

## RES_0201_6.04k_1%
designator R?, comment 6.04k 1%
Thick Film Resistors - SMD 6.04K OHM 1%; Manufacturer 1: Yageo; Manufacturer 1 Prt. Nr.: RC0201FR-076K04L; Manufacturer 2 Prt. Nr.: CRCW02016K04FNED; Manufacturer 2: Vishay / Dale
footprint RESC0603X03L (Chip Resistor, 2-Leads, Body 0,60x0,30mm, IPC High Density)
pins: 1, 2
text: 0201

## RES_0201_8.2k_1%
designator R?, comment 8.2k 1%
Thick Film Resistors - SMD 8.2K OHM 1%; Manufacturer 1: Yageo; Manufacturer 1 Prt. Nr.: RC0201FR-078K2L; Manufacturer 2 Prt. Nr.: CRCW02018K20FNED; Manufacturer 2: Vishay / Dale
footprint RESC0603X03L (Chip Resistor, 2-Leads, Body 0,60x0,30mm, IPC High Density)
pins: 1, 2
text: 0201

## RES_0201_10k_1%
designator R?, comment 10k 1%
Thick Film Resistors - SMD 10K OHM 1%; Manufacturer 1: Yageo; Manufacturer 1 Prt. Nr.: RC0201FR-0710KL; Manufacturer 2 Prt. Nr.: CRCW020110K0FNED; Manufacturer 2: Vishay / Dale
footprint RESC0603X03L (Chip Resistor, 2-Leads, Body 0,60x0,30mm, IPC High Density)
pins: 1, 2
text: 0201

## RES_0201_12k_1%
designator R?, comment 12k 1%
Thick Film Resistors - SMD 12K OHM 1%; Manufacturer 1: Yageo; Manufacturer 1 Prt. Nr.: RC0201FR-0712KL; Manufacturer 2 Prt. Nr.: CRCW020112K0FKED; Manufacturer 2: Vishay / Dale
footprint RESC0603X03L (Chip Resistor, 2-Leads, Body 0,60x0,30mm, IPC High Density)
pins: 1, 2
text: 0201

## RES_0201_22R_1%
designator R?, comment 22R 1%
Thick Film Resistors - SMD 22R OHM 1%; Manufacturer 1: Yageo; Manufacturer 1 Prt. Nr.: RC0201FR-0722RL; Manufacturer 2 Prt. Nr.: CRCW020122R0FNED; Manufacturer 2: Vishay / Dale
footprint RESC0603X03L (Chip Resistor, 2-Leads, Body 0,60x0,30mm, IPC High Density)
footprint RESC0603X03UHDI (Chip Resistor, 2-Leads, Body 0,60x0,30mm, IPC High Density)
pins: 1, 2
text: 0201

## RES_0201_24k_1%
designator R?, comment 24k 1%
Thick Film Resistors - SMD 24K OHM 1%; Manufacturer 1: Yageo; Manufacturer 1 Prt. Nr.: RC0201FR-0724KL; Manufacturer 2 Prt. Nr.: CRCW020124K0FKED; Manufacturer 2: Vishay / Dale
footprint RESC0603X03L (Chip Resistor, 2-Leads, Body 0,60x0,30mm, IPC High Density)
pins: 1, 2
text: 0201

## RES_0201_100k_1%
designator R?, comment 100k 1%
Thick Film Resistors - SMD 100K OHM 1%; Manufacturer 1: Yageo; Manufacturer 1 Prt. Nr.: RC0201FR-07100KL; Manufacturer 2 Prt. Nr.: CRCW0201100KFNED; Manufacturer 2: Vishay / Dale
footprint RESC0603X03L (Chip Resistor, 2-Leads, Body 0,60x0,30mm, IPC High Density)
pins: 1, 2
text: 0201

## RES_0201_150R_1%
designator R?, comment 150R 1%  (no BOM)
Thick Film Resistors - SMD 150 OHM 1%; Manufacturer 1: Yageo; Manufacturer 1 Prt. Nr.: RC0201FR-07150RL; Manufacturer 2 Prt. Nr.: CRCW0201150RFNED; Manufacturer 2: Vishay / Dale
footprint RESC0603X03L (Chip Resistor, 2-Leads, Body 0,60x0,30mm, IPC High Density)
pins: 1, 2
text: 0201

## RES_0201_200R_1%
designator R?, comment 200R 1%
Thick Film Resistors - SMD 200 OHM 1%; Manufacturer 1: Yageo; Manufacturer 1 Prt. Nr.: RC0201FR-07200RL; Manufacturer 2 Prt. Nr.: CRCW0201200RFNED; Manufacturer 2: Vishay / Dale
footprint RESC0603X03L (Chip Resistor, 2-Leads, Body 0,60x0,30mm, IPC High Density)
pins: 1, 2
text: 0201

## RES_0201_240R_1%
designator R?, comment 240R 1%
Thick Film Resistors - SMD 240 OHM 1%; Manufacturer 1: Yageo; Manufacturer 1 Prt. Nr.: RC0201FR-07240RL; Manufacturer 2 Prt. Nr.: CRCW0201240RFNED; Manufacturer 2: Vishay / Dale
footprint RESC0603X03L (Chip Resistor, 2-Leads, Body 0,60x0,30mm, IPC High Density)
pins: 1, 2
text: 0201

## RES_0201_402R_1%
designator R?, comment 402R 1%
Thick Film Resistors - SMD 402 OHM 1%; Manufacturer 1: Yageo; Manufacturer 1 Prt. Nr.: AC0201FR-07402RL; Manufacturer 2 Prt. Nr.: CRCW0201402RFKED; Manufacturer 2: Vishay / Dale
footprint RESC0603X03L (Chip Resistor, 2-Leads, Body 0,60x0,30mm, IPC High Density)
pins: 1, 2
text: 0201

## RES_0201_453k_1%
designator R?, comment 453k 1%
Thick Film Resistors - SMD 453K OHM 1%; Manufacturer 1: Yageo; Manufacturer 1 Prt. Nr.: RC0201FR-07453KL; Manufacturer 2 Prt. Nr.: CRCW0201453KFKED; Manufacturer 2: Vishay / Dale
footprint RESC0603X03L (Chip Resistor, 2-Leads, Body 0,60x0,30mm, IPC High Density)
pins: 1, 2
text: 0201

## RES_0402_0R_1%
designator R?, comment 0Ohm 1%
Thick Film Resistors - SMD 0OHM 1%; Manufacturer 1: Bourns; Manufacturer 1 Prt. Nr.: CR0402AJ/-000GAS; Manufacturer 2 Prt. Nr.: AC0402FR-070RL; Manufacturer 2: YAGEO
footprint RESC1005X04L (Chip Resistor, 2-Leads, Body 1,00x0,53mm, IPC High Density)
pins: 1, 2
text: 0402

## RF Analog SW 2:1_BGS12P2L6
designator U?, comment BGS12P2L6
SPDT 2-channel analog multiplexer/demultiplexer EF 6GHz Bandwidth; Manufacturer 1: Infineon; Manufacturer 1 Prt. Nr.: BGS12P2L6E6327XTSA1
footprint PSON40P70X32-6N (PSON, 6-Leads, Body 1,10x0,70mm, Pitch 0,40mm, IPC Medium Density)
pins: 1 RF2, 2 GND, 3 RF1, 4 VCC, 5 RF, 6 S

## Schottky 40V_200mA_BAS40L-G3-08
designator D?, comment BAS40L-G3-08
Schottky Diodes & Rectifiers; Manufacturer 1: Vishay; Manufacturer 1 Prt. Nr.: BAS40L-G3-08
footprint DFN1006-2A (Leadless ultra small DFN1006-2A package (1mm × 0.6mm × 0.45mm))
pins: 1, 2

## Secure Element I2C_SE051
designator U?, comment SE051
Secure Element Plug & Trust SE051; Manufacturer 1: NXP Semiconductors; Manufacturer 1 Prt. Nr.: SE051C2HQ1/Z01XDZ
footprint QFN40P300X300X33_HS-21L (QFN, 20-Leads, Body 3,00x3,00mm, Pitch 0,40mm, Thermal Pad 1,90x1,90mm, IPC High Density)
pins: 1 ISO 14443 LB, 2 NC, 3 ISO 7816 IO1, 4 NC, 5 NC, 6 NC, 7 NC, 8 NC, 9 I2C_SDA, 10 I2C_SCL, 11 ENA, 12 VIN, 13 ISO 7816 CLK, 14 ISO 7816 RST_N, 15 VOUT, 16 ISO 7816 IO2, 17 ISO 14443 LA, 18 VCC, 19 VSS, 20 NC, 21 EXP

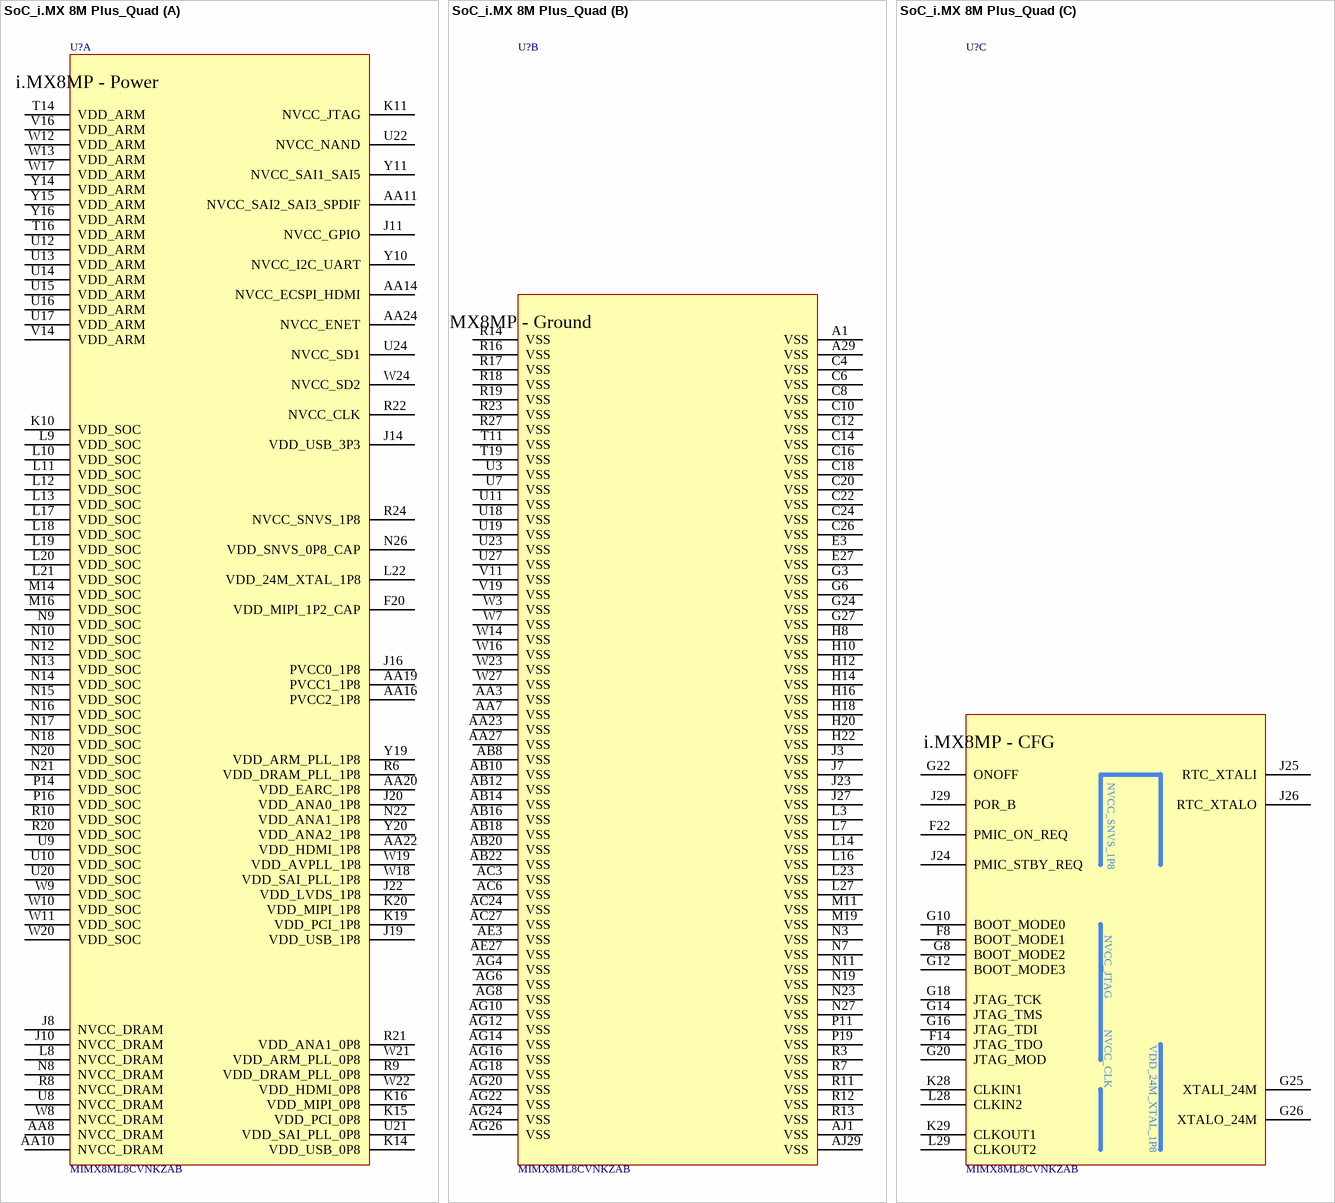
[diagram p3: symbol SoC_i.MX 8M Plus_Quad]

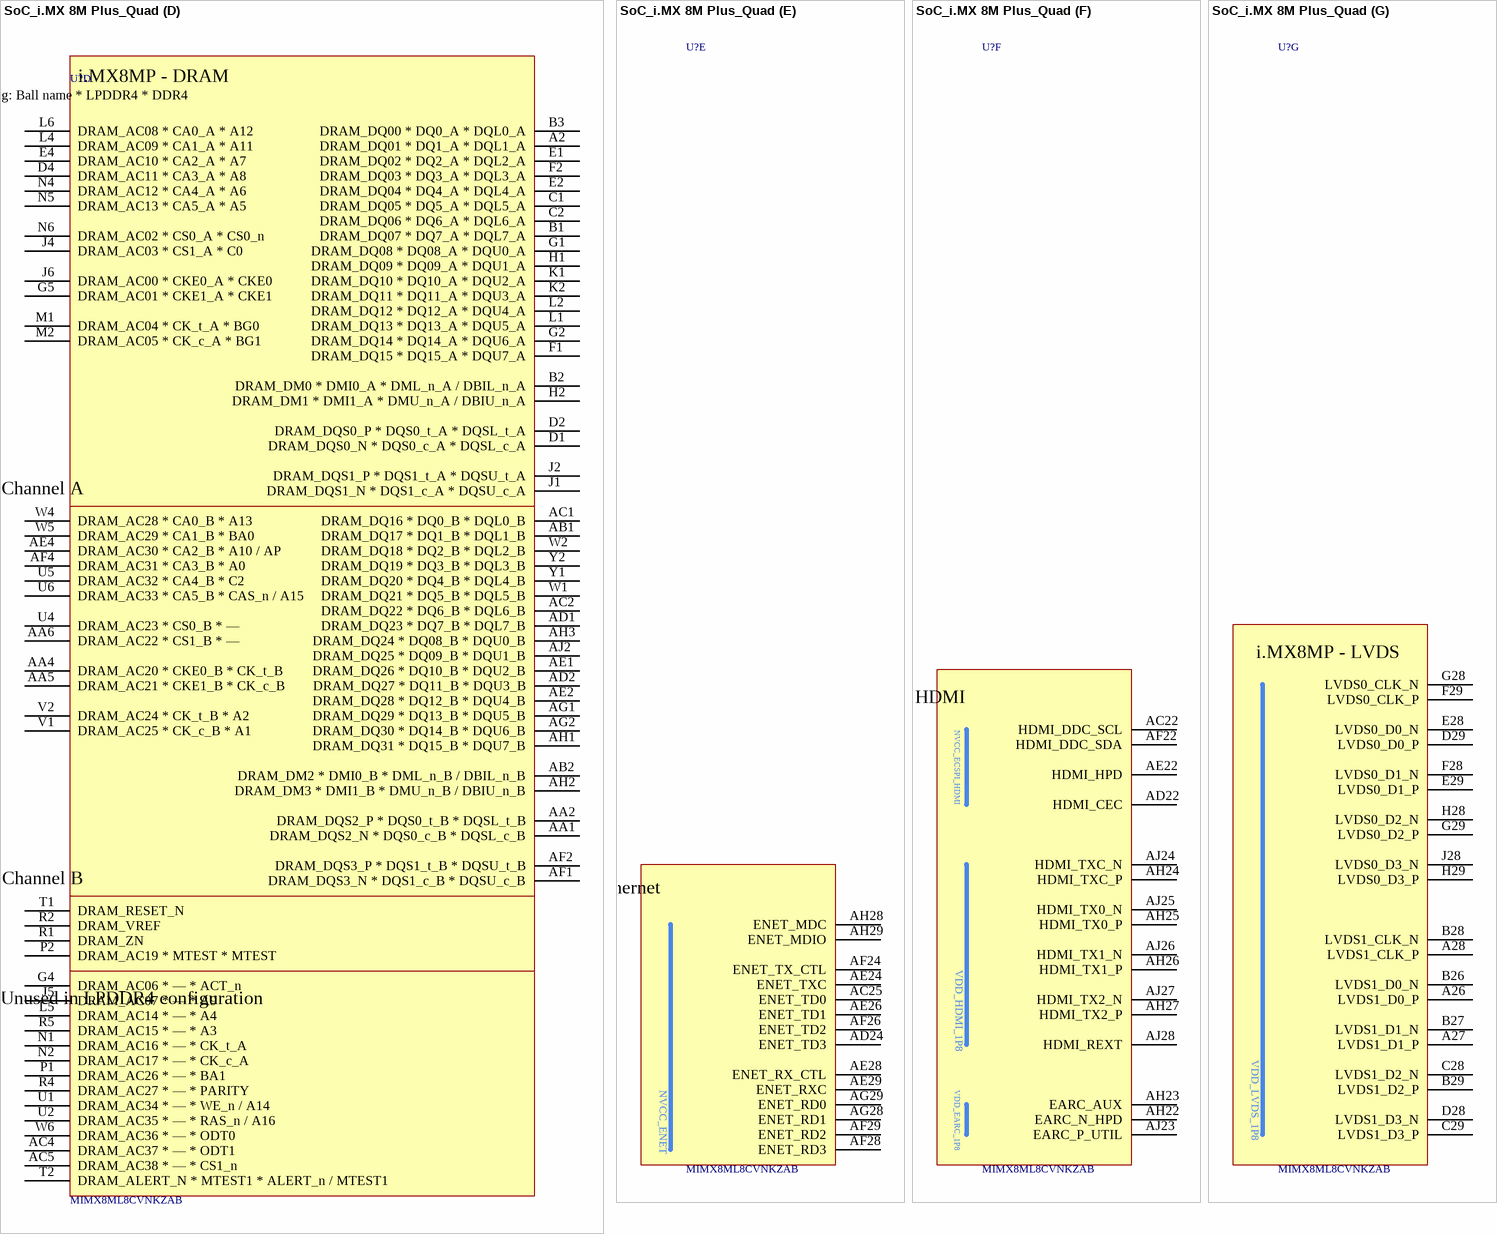
[diagram p4: symbol SoC_i.MX 8M Plus_Quad]

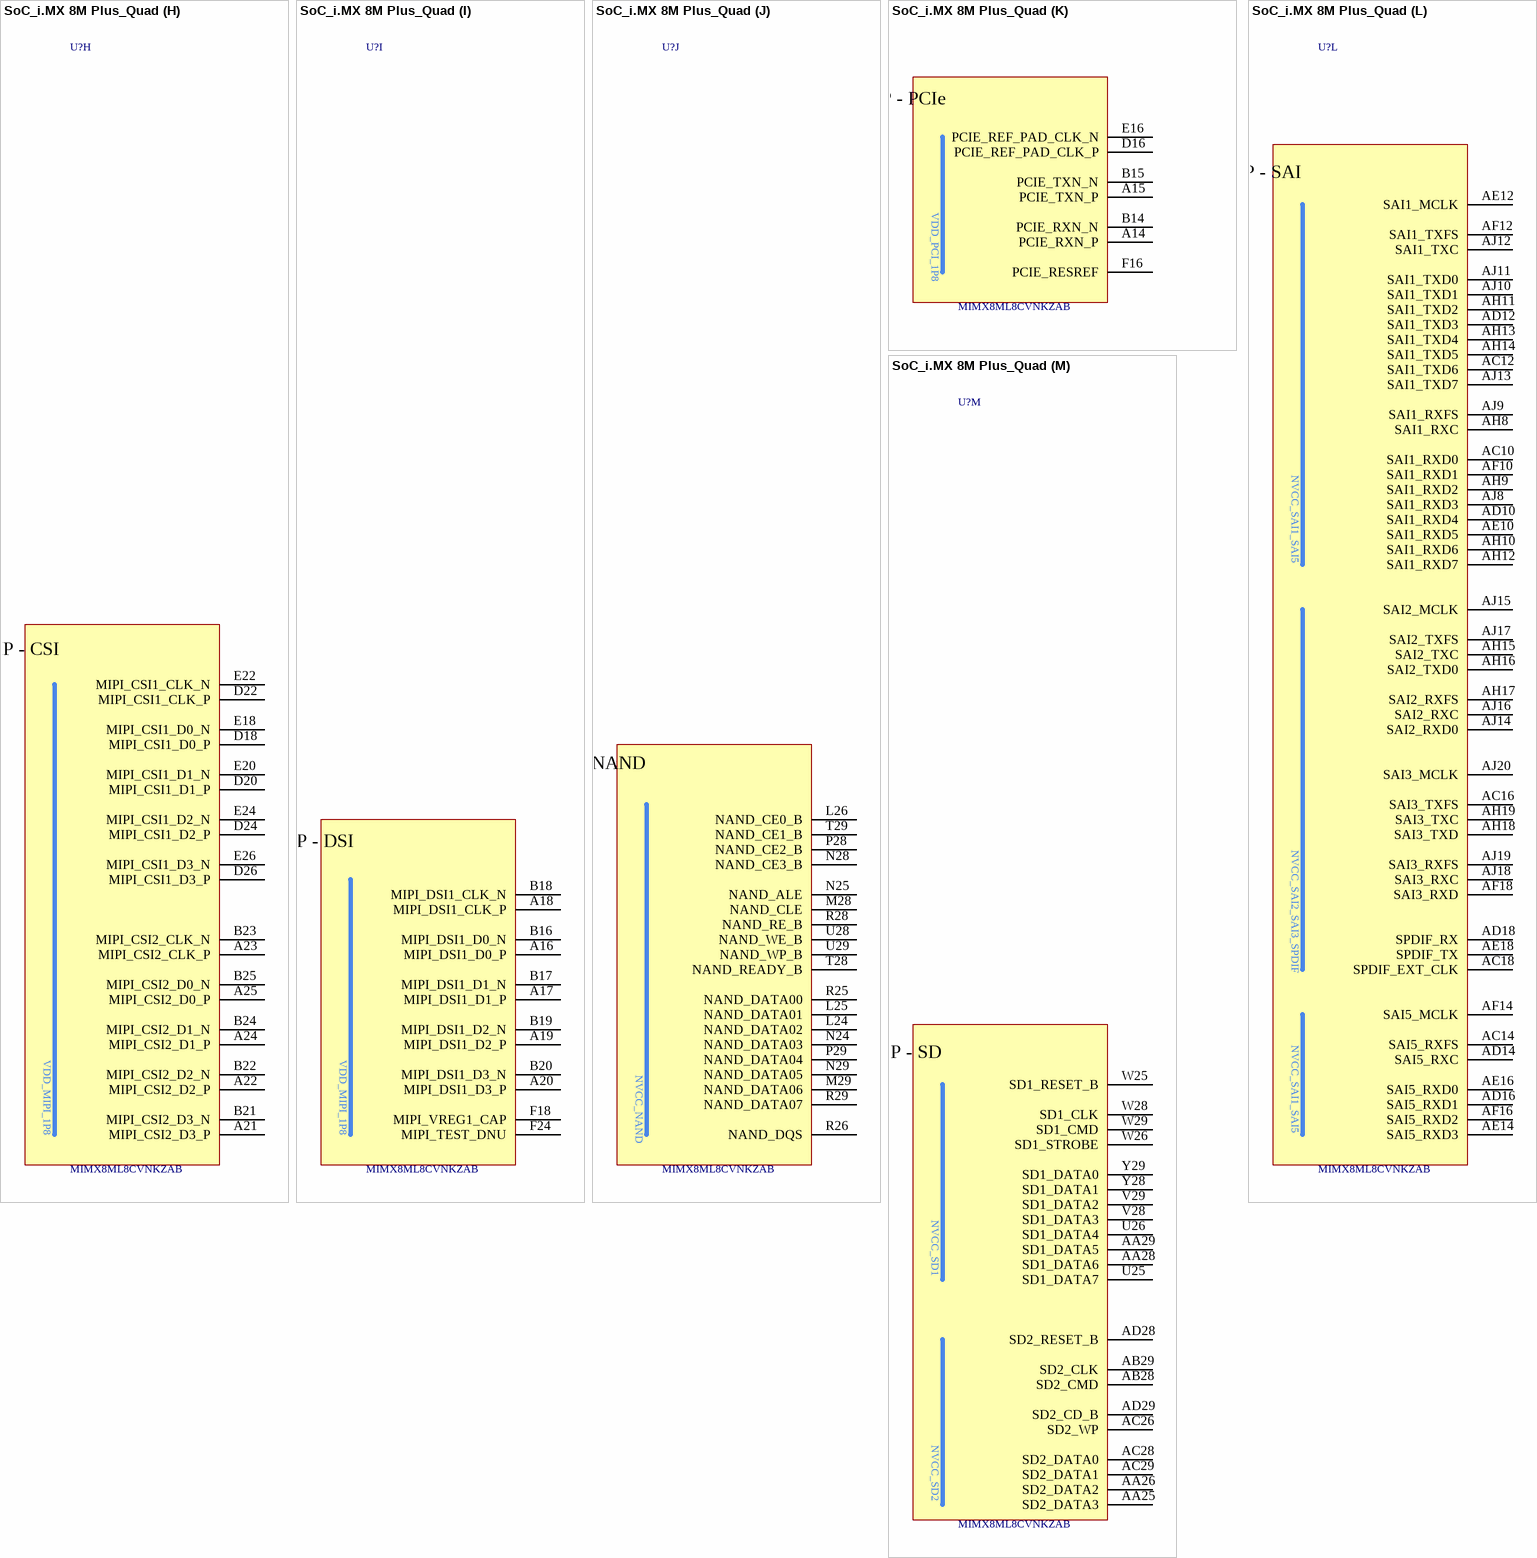
[diagram p5: symbol SoC_i.MX 8M Plus_Quad]

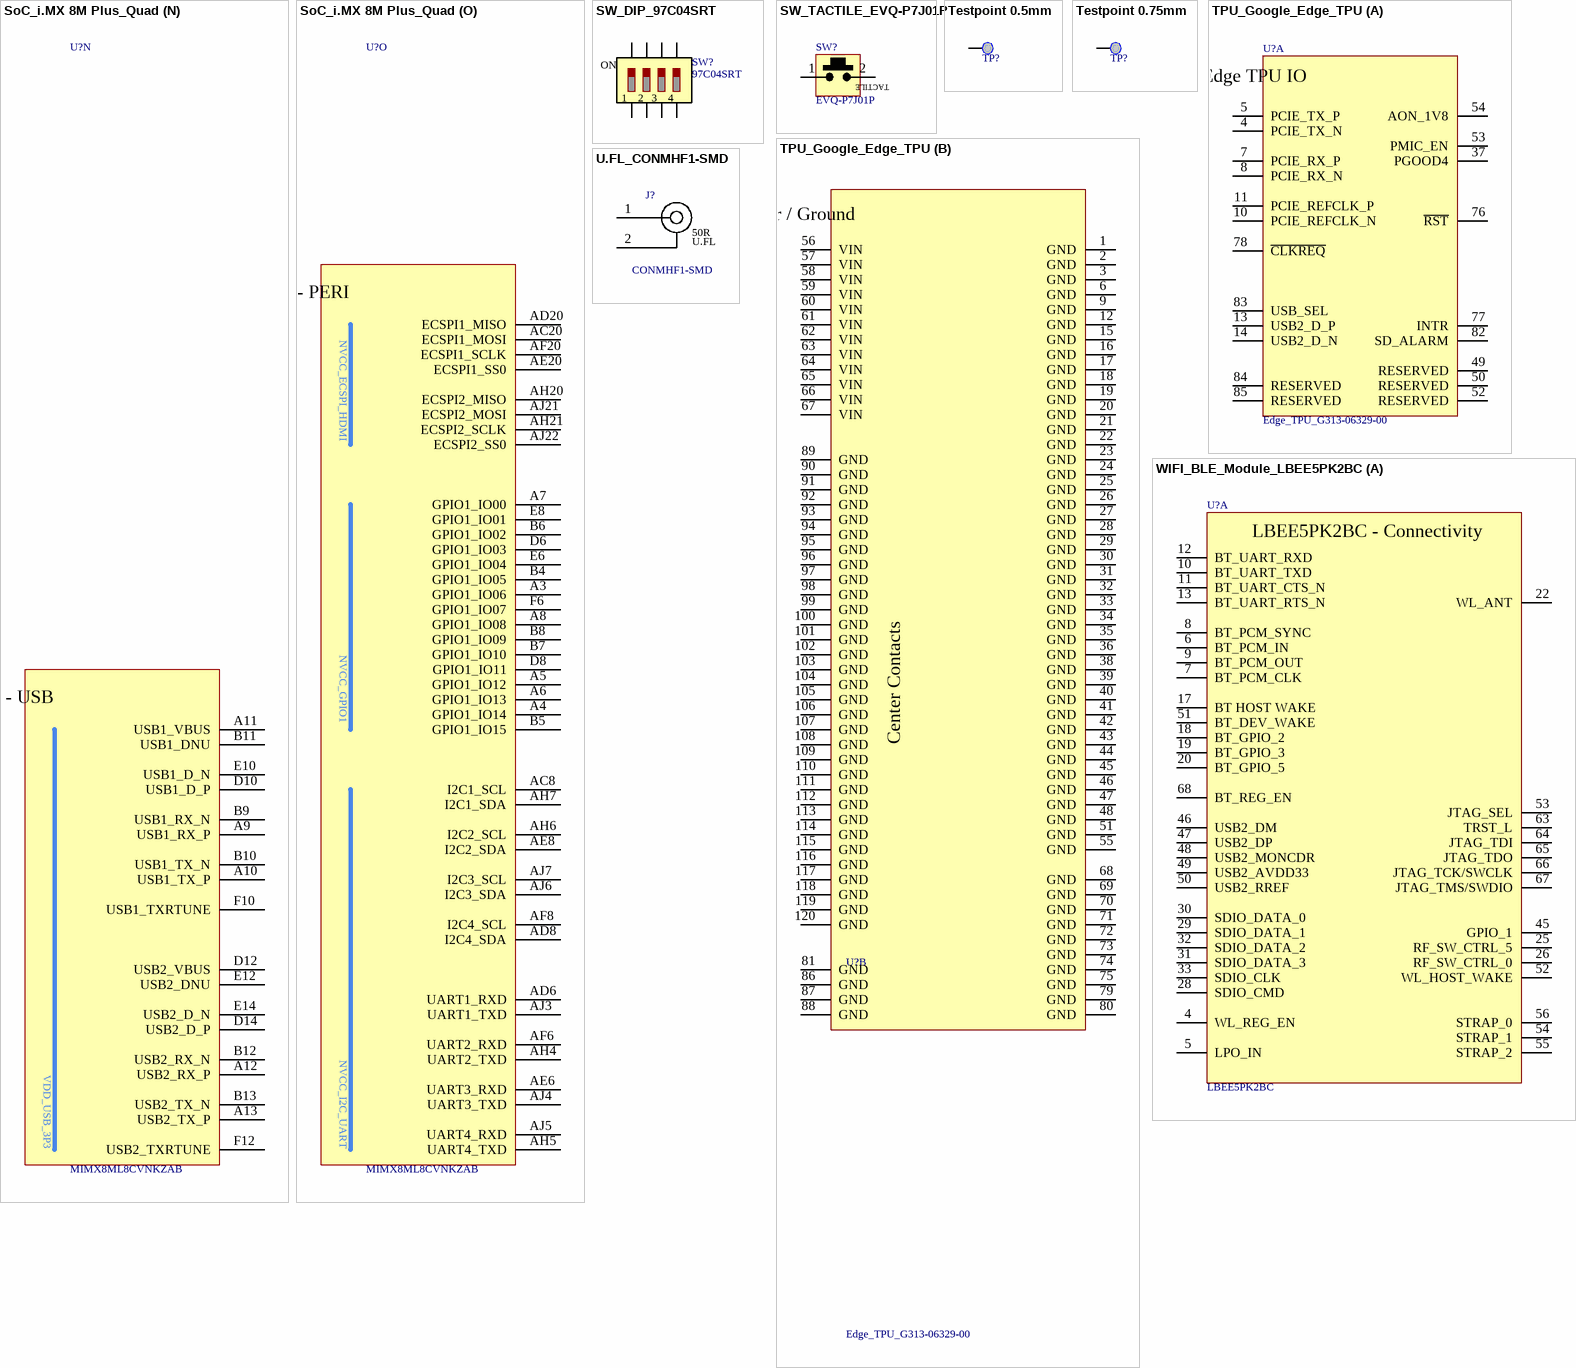
[diagram p6: symbols SoC_i.MX 8M Plus_Quad to WIFI_BLE_Module_LBEE5PK2BC]

## SoC_i.MX 8M Plus_Quad
designator U?, comment MIMX8ML8CVNKZAB
i.MX 8M Plus Applications Processor  for Industrial Products; Manufacturer 1: NXP Semiconductor; Manufacturer 1 Prt. Nr.: MIMX8ML8CVNKZAB
footprint BGA548C50P29X29_1500X1500X148 (BGA, 548-Leads, Body 15,00x15,00mmx1,48mm, Pitch 0,50mm)
part A pins: AA8 NVCC_DRAM, AA10 NVCC_DRAM, AA11 NVCC_SAI2_SAI3_SPDIF, AA14 NVCC_ECSPI_HDMI, AA16 PVCC2_1P8, AA19 PVCC1_1P8, AA20 VDD_EARC_1P8, AA22 VDD_HDMI_1P8, AA24 NVCC_ENET, F20 VDD_MIPI_1P2_CAP, J8 NVCC_DRAM, J10 NVCC_DRAM, J11 NVCC_GPIO, J14 VDD_USB_3P3, J16 PVCC0_1P8, J19 VDD_USB_1P8, J20 VDD_ANA0_1P8, J22 VDD_LVDS_1P8, K10 VDD_SOC, K11 NVCC_JTAG, K14 VDD_USB_0P8, K15 VDD_PCI_0P8, K16 VDD_MIPI_0P8, K19 VDD_PCI_1P8, K20 VDD_MIPI_1P8, L8 NVCC_DRAM, L9 VDD_SOC, L10 VDD_SOC, L11 VDD_SOC, L12 VDD_SOC, L13 VDD_SOC, L17 VDD_SOC, L18 VDD_SOC, L19 VDD_SOC, L20 VDD_SOC, L21 VDD_SOC, L22 VDD_24M_XTAL_1P8, M14 VDD_SOC, M16 VDD_SOC, N8 NVCC_DRAM, N9 VDD_SOC, N10 VDD_SOC, N12 VDD_SOC, N13 VDD_SOC, N14 VDD_SOC, N15 VDD_SOC, N16 VDD_SOC, N17 VDD_SOC, N18 VDD_SOC, N20 VDD_SOC, N21 VDD_SOC, N22 VDD_ANA1_1P8, N26 VDD_SNVS_0P8_CAP, P14 VDD_SOC, P16 VDD_SOC, R6 VDD_DRAM_PLL_1P8, R8 NVCC_DRAM, R9 VDD_DRAM_PLL_0P8, R10 VDD_SOC, R20 VDD_SOC, R21 VDD_ANA1_0P8, R22 NVCC_CLK, R24 NVCC_SNVS_1P8, T14 VDD_ARM, T16 VDD_ARM, U8 NVCC_DRAM, U9 VDD_SOC, U10 VDD_SOC, U12 VDD_ARM, U13 VDD_ARM, U14 VDD_ARM, U15 VDD_ARM, U16 VDD_ARM, U17 VDD_ARM, U20 VDD_SOC, U21 VDD_SAI_PLL_0P8, U22 NVCC_NAND, U24 NVCC_SD1, V14 VDD_ARM, V16 VDD_ARM, W8 NVCC_DRAM, W9 VDD_SOC, W10 VDD_SOC, W11 VDD_SOC, W12 VDD_ARM, W13 VDD_ARM, W17 VDD_ARM, W18 VDD_SAI_PLL_1P8, W19 VDD_AVPLL_1P8, W20 VDD_SOC, W21 VDD_ARM_PLL_0P8, W22 VDD_HDMI_0P8, W24 NVCC_SD2, Y10 NVCC_I2C_UART, Y11 NVCC_SAI1_SAI5, Y14 VDD_ARM, Y15 VDD_ARM, Y16 VDD_ARM, Y19 VDD_ARM_PLL_1P8, Y20 VDD_ANA2_1P8
part B pins: A1 VSS, A29 VSS, AA3 VSS, AA7 VSS, AA23 VSS, AA27 VSS, AB8 VSS, AB10 VSS, AB12 VSS, AB14 VSS, AB16 VSS, AB18 VSS, AB20 VSS, AB22 VSS, AC3 VSS, AC6 VSS, AC24 VSS, AC27 VSS, AE3 VSS, AE27 VSS, AG4 VSS, AG6 VSS, AG8 VSS, AG10 VSS, AG12 VSS, AG14 VSS, AG16 VSS, AG18 VSS, AG20 VSS, AG22 VSS, AG24 VSS, AG26 VSS, AJ1 VSS, AJ29 VSS, C4 VSS, C6 VSS, C8 VSS, C10 VSS, C12 VSS, C14 VSS, C16 VSS, C18 VSS, C20 VSS, C22 VSS, C24 VSS, C26 VSS, E3 VSS, E27 VSS, G3 VSS, G6 VSS, G24 VSS, G27 VSS, H8 VSS, H10 VSS, H12 VSS, H14 VSS, H16 VSS, H18 VSS, H20 VSS, H22 VSS, J3 VSS, J7 VSS, J23 VSS, J27 VSS, L3 VSS, L7 VSS, L14 VSS, L16 VSS, L23 VSS, L27 VSS, M11 VSS, M19 VSS, N3 VSS, N7 VSS, N11 VSS, N19 VSS, N23 VSS, N27 VSS, P11 VSS, P19 VSS, R3 VSS, R7 VSS, R11 VSS, R12 VSS, R13 VSS, R14 VSS, R16 VSS, R17 VSS, R18 VSS, R19 VSS, R23 VSS, R27 VSS, T11 VSS, T19 VSS, U3 VSS, U7 VSS, U11 VSS, U18 VSS, U19 VSS, U23 VSS, U27 VSS, V11 VSS, V19 VSS, W3 VSS, W7 VSS, W14 VSS, W16 VSS, W23 VSS, W27 VSS
part C pins: F8 BOOT_MODE1, F14 JTAG_TDO, F22 PMIC_ON_REQ, G8 BOOT_MODE2, G10 BOOT_MODE0, G12 BOOT_MODE3, G14 JTAG_TMS, G16 JTAG_TDI, G18 JTAG_TCK, G20 JTAG_MOD, G22 ONOFF, G25 XTALI_24M, G26 XTALO_24M, J24 PMIC_STBY_REQ, J25 RTC_XTALI, J26 RTC_XTALO, J29 POR_B, K28 CLKIN1, K29 CLKOUT1, L28 CLKIN2, L29 CLKOUT2
part D pins: A2 DRAM_DQ01 * DQ1_A * DQL1_A, AA1 DRAM_DQS2_N * DQS0_c_B * DQSL_c_B, AA2 DRAM_DQS2_P * DQS0_t_B * DQSL_t_B, AA4 DRAM_AC20 * CKE0_B * CK_t_B, AA5 DRAM_AC21 * CKE1_B * CK_c_B, AA6 DRAM_AC22 * CS1_B * —, AB1 DRAM_DQ17 * DQ1_B * DQL1_B, AB2 DRAM_DM2 * DMI0_B * DML_n_B / DBIL_n_B, AC1 DRAM_DQ16 * DQ0_B * DQL0_B, AC2 DRAM_DQ22 * DQ6_B * DQL6_B, AC4 DRAM_AC37 * — * ODT1, AC5 DRAM_AC38 * — * CS1_n, AD1 DRAM_DQ23 * DQ7_B * DQL7_B, AD2 DRAM_DQ27 * DQ11_B * DQU3_B, AE1 DRAM_DQ26 * DQ10_B * DQU2_B, AE2 DRAM_DQ28 * DQ12_B * DQU4_B, AE4 DRAM_AC30 * CA2_B * A10 / AP, AF1 DRAM_DQS3_N * DQS1_c_B * DQSU_c_B, AF2 DRAM_DQS3_P * DQS1_t_B * DQSU_t_B, AF4 DRAM_AC31 * CA3_B * A0, AG1 DRAM_DQ29 * DQ13_B * DQU5_B, AG2 DRAM_DQ30 * DQ14_B * DQU6_B, AH1 DRAM_DQ31 * DQ15_B * DQU7_B, AH2 DRAM_DM3 * DMI1_B * DMU_n_B / DBIU_n_B, AH3 DRAM_DQ24 * DQ08_B * DQU0_B, AJ2 DRAM_DQ25 * DQ09_B * DQU1_B, B1 DRAM_DQ07 * DQ7_A * DQL7_A, B2 DRAM_DM0 * DMI0_A * DML_n_A / DBIL_n_A, B3 DRAM_DQ00 * DQ0_A * DQL0_A, C1 DRAM_DQ05 * DQ5_A * DQL5_A, C2 DRAM_DQ06 * DQ6_A * DQL6_A, D1 DRAM_DQS0_N * DQS0_c_A * DQSL_c_A, D2 DRAM_DQS0_P * DQS0_t_A * DQSL_t_A, D4 DRAM_AC11 * CA3_A * A8, E1 DRAM_DQ02 * DQ2_A * DQL2_A, E2 DRAM_DQ04 * DQ4_A * DQL4_A, E4 DRAM_AC10 * CA2_A * A7, F1 DRAM_DQ15 * DQ15_A * DQU7_A, F2 DRAM_DQ03 * DQ3_A * DQL3_A, G1 DRAM_DQ08 * DQ08_A * DQU0_A, G2 DRAM_DQ14 * DQ14_A * DQU6_A, G4 DRAM_AC06 * — * ACT_n, G5 DRAM_AC01 * CKE1_A * CKE1, H1 DRAM_DQ09 * DQ09_A * DQU1_A, H2 DRAM_DM1 * DMI1_A * DMU_n_A / DBIU_n_A, J1 DRAM_DQS1_N * DQS1_c_A * DQSU_c_A, J2 DRAM_DQS1_P * DQS1_t_A * DQSU_t_A, J4 DRAM_AC03 * CS1_A * C0, J5 DRAM_AC07 * — * A9, J6 DRAM_AC00 * CKE0_A * CKE0, K1 DRAM_DQ10 * DQ10_A * DQU2_A, K2 DRAM_DQ11 * DQ11_A * DQU3_A, L1 DRAM_DQ13 * DQ13_A * DQU5_A, L2 DRAM_DQ12 * DQ12_A * DQU4_A, L4 DRAM_AC09 * CA1_A * A11, L5 DRAM_AC14 * — * A4, L6 DRAM_AC08 * CA0_A * A12, M1 DRAM_AC04 * CK_t_A * BG0, M2 DRAM_AC05 * CK_c_A * BG1, N1 DRAM_AC16 * — * CK_t_A, N2 DRAM_AC17 * — * CK_c_A, N4 DRAM_AC12 * CA4_A * A6, N5 DRAM_AC13 * CA5_A * A5, N6 DRAM_AC02 * CS0_A * CS0_n, P1 DRAM_AC26 * — * BA1, P2 DRAM_AC19 * MTEST * MTEST, R1 DRAM_ZN, R2 DRAM_VREF, R4 DRAM_AC27 * — * PARITY, R5 DRAM_AC15 * — * A3, T1 DRAM_RESET_N, T2 DRAM_ALERT_N * MTEST1 * ALERT_n / MTEST1, U1 DRAM_AC34 * — * WE_n / A14, U2 DRAM_AC35 * — * RAS_n / A16, U4 DRAM_AC23 * CS0_B * —, U5 DRAM_AC32 * CA4_B * C2, U6 DRAM_AC33 * CA5_B * CAS_n / A15, V1 DRAM_AC25 * CK_c_B * A1, V2 DRAM_AC24 * CK_t_B * A2, W1 DRAM_DQ21 * DQ5_B * DQL5_B, W2 DRAM_DQ18 * DQ2_B * DQL2_B, W4 DRAM_AC28 * CA0_B * A13, W5 DRAM_AC29 * CA1_B * BA0, W6 DRAM_AC36 * — * ODT0, Y1 DRAM_DQ20 * DQ4_B * DQL4_B, Y2 DRAM_DQ19 * DQ3_B * DQL3_B
part E pins: AC25 ENET_TD0, AD24 ENET_TD3, AE24 ENET_TXC, AE26 ENET_TD1, AE28 ENET_RX_CTL, AE29 ENET_RXC, AF24 ENET_TX_CTL, AF26 ENET_TD2, AF28 ENET_RD3, AF29 ENET_RD2, AG28 ENET_RD1, AG29 ENET_RD0, AH28 ENET_MDC, AH29 ENET_MDIO
part F pins: AC22 HDMI_DDC_SCL, AD22 HDMI_CEC, AE22 HDMI_HPD, AF22 HDMI_DDC_SDA, AH22 EARC_N_HPD, AH23 EARC_AUX, AH24 HDMI_TXC_P, AH25 HDMI_TX0_P, AH26 HDMI_TX1_P, AH27 HDMI_TX2_P, AJ23 EARC_P_UTIL, AJ24 HDMI_TXC_N, AJ25 HDMI_TX0_N, AJ26 HDMI_TX1_N, AJ27 HDMI_TX2_N, AJ28 HDMI_REXT
part G pins: A26 LVDS1_D0_P, A27 LVDS1_D1_P, A28 LVDS1_CLK_P, B26 LVDS1_D0_N, B27 LVDS1_D1_N, B28 LVDS1_CLK_N, B29 LVDS1_D2_P, C28 LVDS1_D2_N, C29 LVDS1_D3_P, D28 LVDS1_D3_N, D29 LVDS0_D0_P, E28 LVDS0_D0_N, E29 LVDS0_D1_P, F28 LVDS0_D1_N, F29 LVDS0_CLK_P, G28 LVDS0_CLK_N, G29 LVDS0_D2_P, H28 LVDS0_D2_N, H29 LVDS0_D3_P, J28 LVDS0_D3_N
part H pins: A21 MIPI_CSI2_D3_P, A22 MIPI_CSI2_D2_P, A23 MIPI_CSI2_CLK_P, A24 MIPI_CSI2_D1_P, A25 MIPI_CSI2_D0_P, B21 MIPI_CSI2_D3_N, B22 MIPI_CSI2_D2_N, B23 MIPI_CSI2_CLK_N, B24 MIPI_CSI2_D1_N, B25 MIPI_CSI2_D0_N, D18 MIPI_CSI1_D0_P, D20 MIPI_CSI1_D1_P, D22 MIPI_CSI1_CLK_P, D24 MIPI_CSI1_D2_P, D26 MIPI_CSI1_D3_P, E18 MIPI_CSI1_D0_N, E20 MIPI_CSI1_D1_N, E22 MIPI_CSI1_CLK_N, E24 MIPI_CSI1_D2_N, E26 MIPI_CSI1_D3_N
part I pins: A16 MIPI_DSI1_D0_P, A17 MIPI_DSI1_D1_P, A18 MIPI_DSI1_CLK_P, A19 MIPI_DSI1_D2_P, A20 MIPI_DSI1_D3_P, B16 MIPI_DSI1_D0_N, B17 MIPI_DSI1_D1_N, B18 MIPI_DSI1_CLK_N, B19 MIPI_DSI1_D2_N, B20 MIPI_DSI1_D3_N, F18 MIPI_VREG1_CAP, F24 MIPI_TEST_DNU
part J pins: L24 NAND_DATA02, L25 NAND_DATA01, L26 NAND_CE0_B, M28 NAND_CLE, M29 NAND_DATA06, N24 NAND_DATA03, N25 NAND_ALE, N28 NAND_CE3_B, N29 NAND_DATA05, P28 NAND_CE2_B, P29 NAND_DATA04, R25 NAND_DATA00, R26 NAND_DQS, R28 NAND_RE_B, R29 NAND_DATA07, T28 NAND_READY_B, T29 NAND_CE1_B, U28 NAND_WE_B, U29 NAND_WP_B
part K pins: A14 PCIE_RXN_P, A15 PCIE_TXN_P, B14 PCIE_RXN_N, B15 PCIE_TXN_N, D16 PCIE_REF_PAD_CLK_P, E16 PCIE_REF_PAD_CLK_N, F16 PCIE_RESREF
part L pins: AC10 SAI1_RXD0, AC12 SAI1_TXD6, AC14 SAI5_RXFS, AC16 SAI3_TXFS, AC18 SPDIF_EXT_CLK, AD10 SAI1_RXD4, AD12 SAI1_TXD3, AD14 SAI5_RXC, AD16 SAI5_RXD1, AD18 SPDIF_RX, AE10 SAI1_RXD5, AE12 SAI1_MCLK, AE14 SAI5_RXD3, AE16 SAI5_RXD0, AE18 SPDIF_TX, AF10 SAI1_RXD1, AF12 SAI1_TXFS, AF14 SAI5_MCLK, AF16 SAI5_RXD2, AF18 SAI3_RXD, AH8 SAI1_RXC, AH9 SAI1_RXD2, AH10 SAI1_RXD6, AH11 SAI1_TXD2, AH12 SAI1_RXD7, AH13 SAI1_TXD4, AH14 SAI1_TXD5, AH15 SAI2_TXC, AH16 SAI2_TXD0, AH17 SAI2_RXFS, AH18 SAI3_TXD, AH19 SAI3_TXC, AJ8 SAI1_RXD3, AJ9 SAI1_RXFS, AJ10 SAI1_TXD1, AJ11 SAI1_TXD0, AJ12 SAI1_TXC, AJ13 SAI1_TXD7, AJ14 SAI2_RXD0, AJ15 SAI2_MCLK, AJ16 SAI2_RXC, AJ17 SAI2_TXFS, AJ18 SAI3_RXC, AJ19 SAI3_RXFS, AJ20 SAI3_MCLK
part M pins: AA25 SD2_DATA3, AA26 SD2_DATA2, AA28 SD1_DATA6, AA29 SD1_DATA5, AB28 SD2_CMD, AB29 SD2_CLK, AC26 SD2_WP, AC28 SD2_DATA0, AC29 SD2_DATA1, AD28 SD2_RESET_B, AD29 SD2_CD_B, U25 SD1_DATA7, U26 SD1_DATA4, V28 SD1_DATA3, V29 SD1_DATA2, W25 SD1_RESET_B, W26 SD1_STROBE, W28 SD1_CLK, W29 SD1_CMD, Y28 SD1_DATA1, Y29 SD1_DATA0
part N pins: A9 USB1_RX_P, A10 USB1_TX_P, A11 USB1_VBUS, A12 USB2_RX_P, A13 USB2_TX_P, B9 USB1_RX_N, B10 USB1_TX_N, B11 USB1_DNU, B12 USB2_RX_N, B13 USB2_TX_N, D10 USB1_D_P, D12 USB2_VBUS, D14 USB2_D_P, E10 USB1_D_N, E12 USB2_DNU, E14 USB2_D_N, F10 USB1_TXRTUNE, F12 USB2_TXRTUNE
part O pins: A3 GPIO1_IO06, A4 GPIO1_IO14, A5 GPIO1_IO12, A6 GPIO1_IO13, A7 GPIO1_IO00, A8 GPIO1_IO08, AC8 I2C1_SCL, AC20 ECSPI1_MOSI, AD6 UART1_RXD, AD8 I2C4_SDA, AD20 ECSPI1_MISO, AE6 UART3_RXD, AE8 I2C2_SDA, AE20 ECSPI1_SS0, AF6 UART2_RXD, AF8 I2C4_SCL, AF20 ECSPI1_SCLK, AH4 UART2_TXD, AH5 UART4_TXD, AH6 I2C2_SCL, AH7 I2C1_SDA, AH20 ECSPI2_MISO, AH21 ECSPI2_SCLK, AJ3 UART1_TXD, AJ4 UART3_TXD, AJ5 UART4_RXD, AJ6 I2C3_SDA, AJ7 I2C3_SCL, AJ21 ECSPI2_MOSI, AJ22 ECSPI2_SS0, B4 GPIO1_IO05, B5 GPIO1_IO15, B6 GPIO1_IO02, B7 GPIO1_IO10, B8 GPIO1_IO09, D6 GPIO1_IO03, D8 GPIO1_IO11, E6 GPIO1_IO04, E8 GPIO1_IO01, F6 GPIO1_IO07
part A text: i.MX8MP - Power
part B text: i.MX8MP - Ground
part C text: i.MX8MP - CFG
part D text: i.MX8MP - DRAM; Pin namig: Ball name * LPDDR4 * DDR4; Channel A; Channel B; Unused in LPDDR4 configuration
part E text: i.MX8MP - Ethernet
part F text: i.MX8MP - HDMI
part G text: i.MX8MP - LVDS
part H text: i.MX8MP - CSI
part I text: i.MX8MP - DSI
part J text: i.MX8MP - NAND
part K text: i.MX8MP - PCIe
part L text: i.MX8MP - SAI
part M text: i.MX8MP - SD
part N text: i.MX8MP - USB
part O text: i.MX8MP - PERI; NVCC_GPIO1

## SW_DIP_97C04SRT
designator SW?, comment 97C04SRT
SMD Switch DIP SMD 1.27mm 4 Pos.; Manufacturer 1: Grayhill Inc.; Manufacturer 1 Prt. Nr.: 97C04SRT; Temperature Range: -40°C - 85°C
footprint SW_DIP_4POL_97C04SRT (4Pol Dip Switch 1.27mm Pitch 1.6mm Height)
pins: 1, 2, 3, 4, 5, 6, 7, 8
text: ON

## SW_TACTILE_EVQ-P7J01P
designator SW?, comment EVQ-P7J01P
SMD Switch Tactile SMD 3.2mm X 2.9mm; Manufacturer 1: Panasonic; Manufacturer 1 Prt. Nr.: EVQ-P7J01P
footprint SW_TACT_EVQ-P7J01P (Tactile Switch EVQ-P7J01P SMD)
pins: 1, 2
text: TACTILE

## Testpoint 0.5mm
designator TP?  (value not drawn)  (no BOM)
footprint TP_0.50mm (Testpoint 0.50mm diameter)
pins: TP

## Testpoint 0.75mm
designator TP?  (value not drawn)  (no BOM)
footprint TP_0.75mm (Testpoint 0.75mm diameter)
pins: TP

## TPU_Google_Edge_TPU
designator U?, comment Edge_TPU_G313-06329-00
Google Coral accelerator module, 4TOPs peak performace, PCIe Gen 2x1 & USB2.0 HS; Manufacturer: Coral; Manufacturer Part Number: G313-06329-00
footprint LGA120C50P19X22_1000X1500X150 (LGA, 120-Leads, Body 10,00x15,00mmx1,50mm, Pitch 0,50mm)
part A pins: 4 PCIE_TX_N, 5 PCIE_TX_P, 7 PCIE_RX_P, 8 PCIE_RX_N, 10 PCIE_REFCLK_N, 11 PCIE_REFCLK_P, 13 USB2_D_P, 14 USB2_D_N, 37 PGOOD4, 49 RESERVED, 50 RESERVED, 52 RESERVED, 53 PMIC_EN, 54 AON_1V8, 76 ~{RST}, 77 INTR, 78 ~{CLKREQ}, 82 SD_ALARM, 83 USB_SEL, 84 RESERVED, 85 RESERVED
part B pins: 1 GND, 2 GND, 3 GND, 6 GND, 9 GND, 12 GND, 15 GND, 16 GND, 17 GND, 18 GND, 19 GND, 20 GND, 21 GND, 22 GND, 23 GND, 24 GND, 25 GND, 26 GND, 27 GND, 28 GND, 29 GND, 30 GND, 31 GND, 32 GND, 33 GND, 34 GND, 35 GND, 36 GND, 38 GND, 39 GND, 40 GND, 41 GND, 42 GND, 43 GND, 44 GND, 45 GND, 46 GND, 47 GND, 48 GND, 51 GND, 55 GND, 56 VIN, 57 VIN, 58 VIN, 59 VIN, 60 VIN, 61 VIN, 62 VIN, 63 VIN, 64 VIN, 65 VIN, 66 VIN, 67 VIN, 68 GND, 69 GND, 70 GND, 71 GND, 72 GND, 73 GND, 74 GND, 75 GND, 79 GND, 80 GND, 81 GND, 86 GND, 87 GND, 88 GND, 89 GND, 90 GND, 91 GND, 92 GND, 93 GND, 94 GND, 95 GND, 96 GND, 97 GND, 98 GND, 99 GND, 100 GND, 101 GND, 102 GND, 103 GND, 104 GND, 105 GND, 106 GND, 107 GND, 108 GND, 109 GND, 110 GND, 111 GND, 112 GND, 113 GND, 114 GND, 115 GND, 116 GND, 117 GND, 118 GND, 119 GND, 120 GND
1 alternate drawing of the same symbol
part A text: Edge TPU IO
part B text: Edge TPU Power / Ground; Center Contacts

## U.FL_CONMHF1-SMD
designator J?, comment CONMHF1-SMD
U.FL Type Jack PCB SMD RF Connector; Manufacturer 1: Linx Technologies; Manufacturer 1 Prt. Nr.: CONMHF1-SMD
footprint U.FL Jack SMD (Linx Technologies CONMHF1-SMD)
pins: 1, 2
text: 50R; U.FL

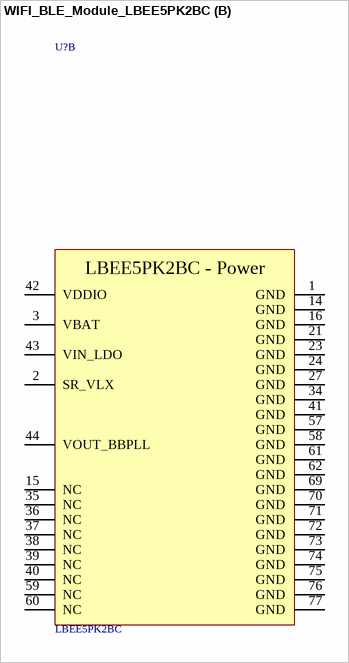
[diagram p7: symbol WIFI_BLE_Module_LBEE5PK2BC]

## WIFI_BLE_Module_LBEE5PK2BC
designator U?, comment LBEE5PK2BC
Shielded Ultra Small Wi-Fi® 11a/b/g/n/ac + Bluetooth® 5.2 Module2.4GHz/5GHz Wi-Fi® + Bluetooth® Module; Manufacturer 1: Murata; Manufacturer 1 Prt. Nr.: LBEE5PK2BC; Temperature Range: -20°C - 70°C
footprint WIFI-BLE Module_LBEE5PK2BC (WIFI and BLE Module SMD)
part A pins: 4 WL_REG_EN, 5 LPO_IN, 6 BT_PCM_IN, 7 BT_PCM_CLK, 8 BT_PCM_SYNC, 9 BT_PCM_OUT, 10 BT_UART_TXD, 11 BT_UART_CTS_N, 12 BT_UART_RXD, 13 BT_UART_RTS_N, 17 BT HOST WAKE, 18 BT_GPIO_2, 19 BT_GPIO_3, 20 BT_GPIO_5, 22 WL_ANT, 25 RF_SW_CTRL_5, 26 RF_SW_CTRL_0, 28 SDIO_CMD, 29 SDIO_DATA_1, 30 SDIO_DATA_0, 31 SDIO_DATA_3, 32 SDIO_DATA_2, 33 SDIO_CLK, 45 GPIO_1, 46 USB2_DM, 47 USB2_DP, 48 USB2_MONCDR, 49 USB2_AVDD33, 50 USB2_RREF, 51 BT_DEV_WAKE, 52 WL_HOST_WAKE, 53 JTAG_SEL, 54 STRAP_1, 55 STRAP_2, 56 STRAP_0, 63 TRST_L, 64 JTAG_TDI, 65 JTAG_TDO, 66 JTAG_TCK/SWCLK, 67 JTAG_TMS/SWDIO, 68 BT_REG_EN
part B pins: 1 GND, 2 SR_VLX, 3 VBAT, 14 GND, 15 NC, 16 GND, 21 GND, 23 GND, 24 GND, 27 GND, 34 GND, 35 NC, 36 NC, 37 NC, 38 NC, 39 NC, 40 NC, 41 GND, 42 VDDIO, 43 VIN_LDO, 44 VOUT_BBPLL, 57 GND, 58 GND, 59 NC, 60 NC, 61 GND, 62 GND, 69 GND, 70 GND, 71 GND, 72 GND, 73 GND, 74 GND, 75 GND, 76 GND, 77 GND
part A text: LBEE5PK2BC - Connectivity
part B text: LBEE5PK2BC - Power